# Altium integrated library Wurth_Elektronik_Electromechanic_Wire_to_Board_Connectors_rev16a.IntLib: 662 symbols (part 1 of 10)
Pins are listed as number, name and electrical type; pins without a type are passive.

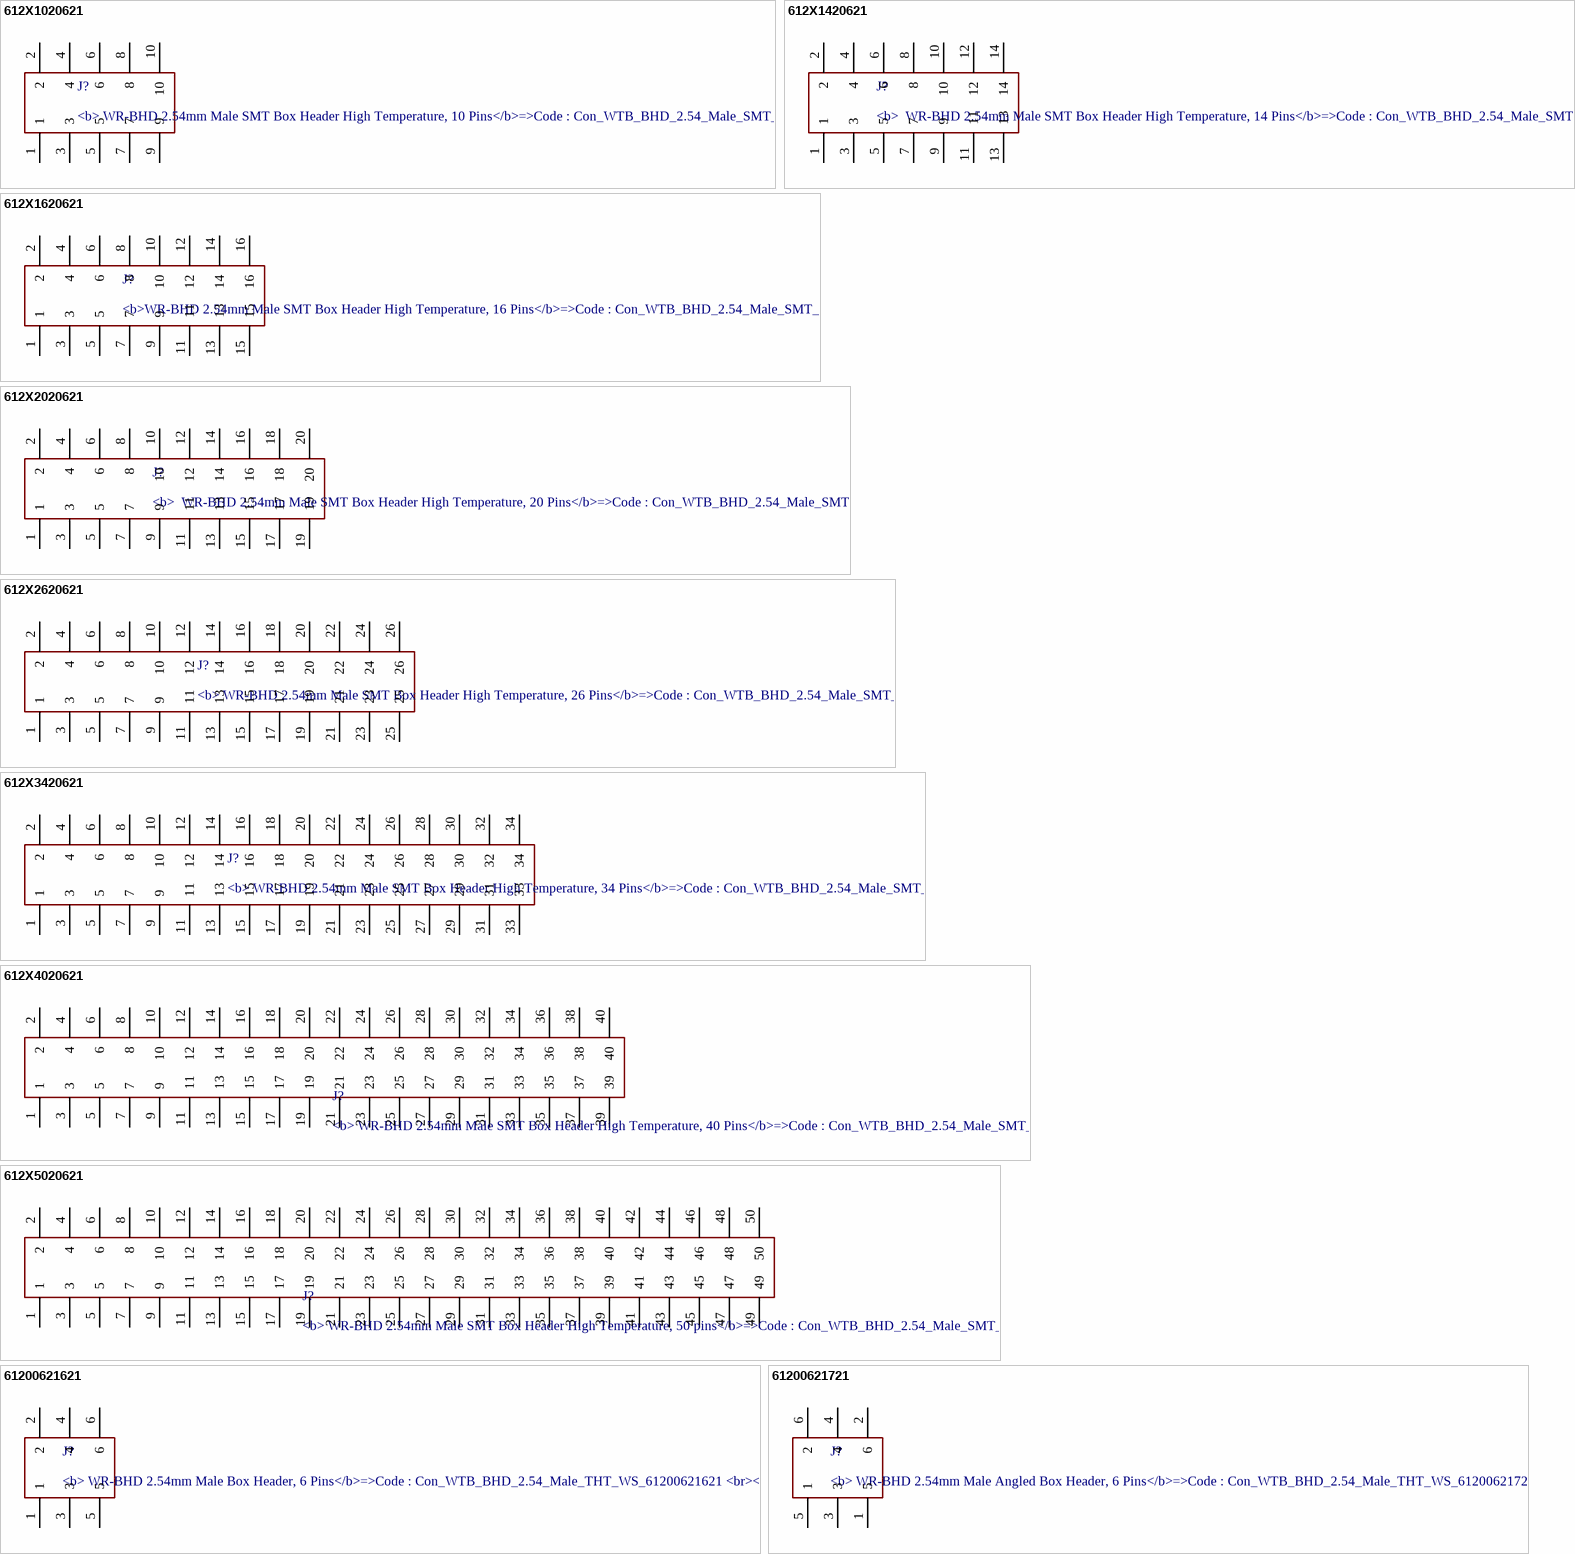
[diagram p0: symbols 612X1020621 to 61200621721]

## 612X1020621
designator J?, comment <b> WR-BHD 2.54mm Male SMT Box Header High Temperature, 10 Pins</b>=>Code : Con_WTB_BHD_2.54_Male_SMT_612X1020621 / <br><a href="http://katalog.we-online.de/media/thumbs2/eican/thb_Con_WTB_BHD_2.54_Male_SMT_6120xx20621_pf2.jpg" title="Enlarge picture"> / <img src="http://katalog.we-online.de/media/thumbs2/eican/thb_Con_WTB_BHD_2.54_Male_SMT_6120xx20621_pf2.jpg"  width="320"></a><p> / Details see: <a href="http://katalog.we-online.de/en/em/612_0xx_206_21">http://katalog.we-online.de/en/em/612_0xx_206_21</a><p> / Created 2014-06-05, Karrer Zheng<br> / 2014 (C) Würth Elektronik
footprint 612X1020621
pins: 1, 2, 3, 4, 5, 6, 7, 8, 9, 10

## 612X1420621
designator J?, comment <b>  WR-BHD 2.54mm Male SMT Box Header High Temperature, 14 Pins</b>=>Code : Con_WTB_BHD_2.54_Male_SMT_612X1420621 / <br><a href="http://katalog.we-online.de/media/thumbs2/eican/thb_Con_WTB_BHD_2.54_Male_SMT_6120xx20621_pf2.jpg" title="Enlarge picture"> / <img src="http://katalog.we-online.de/media/thumbs2/eican/thb_Con_WTB_BHD_2.54_Male_SMT_6120xx20621_pf2.jpg"  width="320"></a><p> / Details see: <a href="http://katalog.we-online.de/en/em/612_0xx_206_21">http://katalog.we-online.de/en/em/612_0xx_206_21</a><p> / Created 2014-06-05, Karrer Zheng<br> / 2014 (C) Würth Elektronik
footprint 612X1420621
pins: 1, 2, 3, 4, 5, 6, 7, 8, 9, 10, 11, 12, 13, 14

## 612X1620621
designator J?, comment <b>WR-BHD 2.54mm Male SMT Box Header High Temperature, 16 Pins</b>=>Code : Con_WTB_BHD_2.54_Male_SMT_612X1620621 / <br><a href="http://katalog.we-online.de/media/thumbs2/eican/thb_Con_WTB_BHD_2.54_Male_SMT_6120xx20621_pf2.jpg" title="Enlarge picture"> / <img src="http://katalog.we-online.de/media/thumbs2/eican/thb_Con_WTB_BHD_2.54_Male_SMT_6120xx20621_pf2.jpg"  width="320"></a><p> / Details see: <a href="http://katalog.we-online.de/en/em/612_0xx_206_21">http://katalog.we-online.de/en/em/612_0xx_206_21</a><p> / Created 2014-06-05, Karrer Zheng<br> / 2014 (C) Würth Elektronik
footprint 612X1620621
pins: 1, 2, 3, 4, 5, 6, 7, 8, 9, 10, 11, 12, 13, 14, 15, 16

## 612X2020621
designator J?, comment <b>  WR-BHD 2.54mm Male SMT Box Header High Temperature, 20 Pins</b>=>Code : Con_WTB_BHD_2.54_Male_SMT_612X2020621 / <br><a href="http://katalog.we-online.de/media/thumbs2/eican/thb_Con_WTB_BHD_2.54_Male_SMT_6120xx20621_pf2.jpg" title="Enlarge picture"> / <img src="http://katalog.we-online.de/media/thumbs2/eican/thb_Con_WTB_BHD_2.54_Male_SMT_6120xx20621_pf2.jpg"  width="320"></a><p> / Details see: <a href="http://katalog.we-online.de/en/em/612_0xx_206_21">http://katalog.we-online.de/en/em/612_0xx_206_21</a><p> / Created 2014-06-05, Karrer Zheng<br> / 2014 (C) Würth Elektronik
footprint 612X2020621
pins: 1, 2, 3, 4, 5, 6, 7, 8, 9, 10, 11, 12, 13, 14, 15, 16, 17, 18, 19, 20

## 612X2620621
designator J?, comment <b> WR-BHD 2.54mm Male SMT Box Header High Temperature, 26 Pins</b>=>Code : Con_WTB_BHD_2.54_Male_SMT_612X2620621 / <br><a href="http://katalog.we-online.de/media/thumbs2/eican/thb_Con_WTB_BHD_2.54_Male_SMT_6120xx20621_pf2.jpg" title="Enlarge picture"> / <img src="http://katalog.we-online.de/media/thumbs2/eican/thb_Con_WTB_BHD_2.54_Male_SMT_6120xx20621_pf2.jpg"  width="320"></a><p> / Details see: <a href="http://katalog.we-online.de/en/em/612_0xx_206_21">http://katalog.we-online.de/en/em/612_0xx_206_21</a><p> / Created 2014-06-05, Karrer Zheng<br> / 2014 (C) Würth Elektronik
footprint 612X2620621
pins: 1, 2, 3, 4, 5, 6, 7, 8, 9, 10, 11, 12, 13, 14, 15, 16, 17, 18, 19, 20, 21, 22, 23, 24, 25, 26

## 612X3420621
designator J?, comment <b> WR-BHD 2.54mm Male SMT Box Header High Temperature, 34 Pins</b>=>Code : Con_WTB_BHD_2.54_Male_SMT_612X3420621 / <br><a href="http://katalog.we-online.de/media/thumbs2/eican/thb_Con_WTB_BHD_2.54_Male_SMT_6120xx20621_pf2.jpg" title="Enlarge picture"> / <img src="http://katalog.we-online.de/media/thumbs2/eican/thb_Con_WTB_BHD_2.54_Male_SMT_6120xx20621_pf2.jpg"  width="320"></a><p> / Details see: <a href="http://katalog.we-online.de/en/em/612_0xx_206_21">http://katalog.we-online.de/en/em/612_0xx_206_21</a><p> / Created 2014-06-05, Karrer Zheng<br> / 2014 (C) Würth Elektronik
footprint 612X3420621
pins: 1, 2, 3, 4, 5, 6, 7, 8, 9, 10, 11, 12, 13, 14, 15, 16, 17, 18, 19, 20, 21, 22, 23, 24, 25, 26, 27, 28, 29, 30, 31, 32, 33, 34

## 612X4020621
designator J?, comment <b> WR-BHD 2.54mm Male SMT Box Header High Temperature, 40 Pins</b>=>Code : Con_WTB_BHD_2.54_Male_SMT_612X4020621 / <br><a href="http://katalog.we-online.de/media/thumbs2/eican/thb_Con_WTB_BHD_2.54_Male_SMT_6120xx20621_pf2.jpg" title="Enlarge picture"> / <img src="http://katalog.we-online.de/media/thumbs2/eican/thb_Con_WTB_BHD_2.54_Male_SMT_6120xx20621_pf2.jpg"  width="320"></a><p> / Details see: <a href="http://katalog.we-online.de/en/em/612_0xx_206_21">http://katalog.we-online.de/en/em/612_0xx_206_21</a><p> / Created 2014-06-05, Karrer Zheng<br> / 2014 (C) Würth Elektronik
footprint 612X4020621
pins: 1, 2, 3, 4, 5, 6, 7, 8, 9, 10, 11, 12, 13, 14, 15, 16, 17, 18, 19, 20, 21, 22, 23, 24, 25, 26, 27, 28, 29, 30, 31, 32, 33, 34, 35, 36, 37, 38, 39, 40

## 612X5020621
designator J?, comment <b> WR-BHD 2.54mm Male SMT Box Header High Temperature, 50 pins</b>=>Code : Con_WTB_BHD_2.54_Male_SMT_612X5020621 / <br><a href="http://katalog.we-online.de/media/thumbs2/eican/thb_Con_WTB_BHD_2.54_Male_SMT_6120xx20621_pf2.jpg" title="Enlarge picture"> / <img src="http://katalog.we-online.de/media/thumbs2/eican/thb_Con_WTB_BHD_2.54_Male_SMT_6120xx20621_pf2.jpg"  width="320"></a><p> / Details see: <a href="http://katalog.we-online.de/en/em/612_0xx_206_21">http://katalog.we-online.de/en/em/612_0xx_206_21</a><p> / Created 2014-06-05, Karrer Zheng<br> / 2014 (C) Würth Elektronik
footprint 612X5020621
pins: 1, 2, 3, 4, 5, 6, 7, 8, 9, 10, 11, 12, 13, 14, 15, 16, 17, 18, 19, 20, 21, 22, 23, 24, 25, 26, 27, 28, 29, 30, 31, 32, 33, 34, 35, 36, 37, 38, 39, 40, 41, 42, 43, 44, 45, 46, 47, 48, 49, 50

## 61200621621
designator J?, comment <b> WR-BHD 2.54mm Male Box Header, 6 Pins</b>=>Code : Con_WTB_BHD_2.54_Male_THT_WS_61200621621 / <br><a href="http://katalog.we-online.de/media/thumbs2/eican/thb_Con_WTB_BHD_2.54_Male_THT_WS_6120xx21621_pf2.jpg" title="Enlarge picture"> / <img src="http://katalog.we-online.de/media/thumbs2/eican/thb_Con_WTB_BHD_2.54_Male_THT_WS_6120xx21621_pf2.jpg"  width="320"></a><p> / Details see: <a href="http://katalog.we-online.de/en/em/612_0xx_216_21">http://katalog.we-online.de/en/em/612_0xx_216_21</a><p> / Created 2014-06-04, Karrer Zheng<br> / 2014 (C) Würth Elektronik
footprint 61200621621
pins: 1, 2, 3, 4, 5, 6

## 61200621721
designator J?, comment <b> WR-BHD 2.54mm Male Angled Box Header, 6 Pins</b>=>Code : Con_WTB_BHD_2.54_Male_THT_WS_61200621721 / <br><a href="http://katalog.we-online.de/media/thumbs2/eican/thb_Con_WTB_BHD_2.54_Male_THT_WS_6120xx21721_pf2.jpg" title="Enlarge picture"> / <img src="http://katalog.we-online.de/media/thumbs2/eican/thb_Con_WTB_BHD_2.54_Male_THT_WS_6120xx21721_pf2.jpg"  width="320"></a><p> / Details see: <a href="http://katalog.we-online.de/en/em/612_0xx_217_21">http://katalog.we-online.de/en/em/612_0xx_217_21</a><p> / Created 2014-06-05, Karrer Zheng<br> / 2014 (C) Würth Elektronik
footprint 61200621721
pins: 1 5, 2 6, 3, 4, 5 1, 6 2

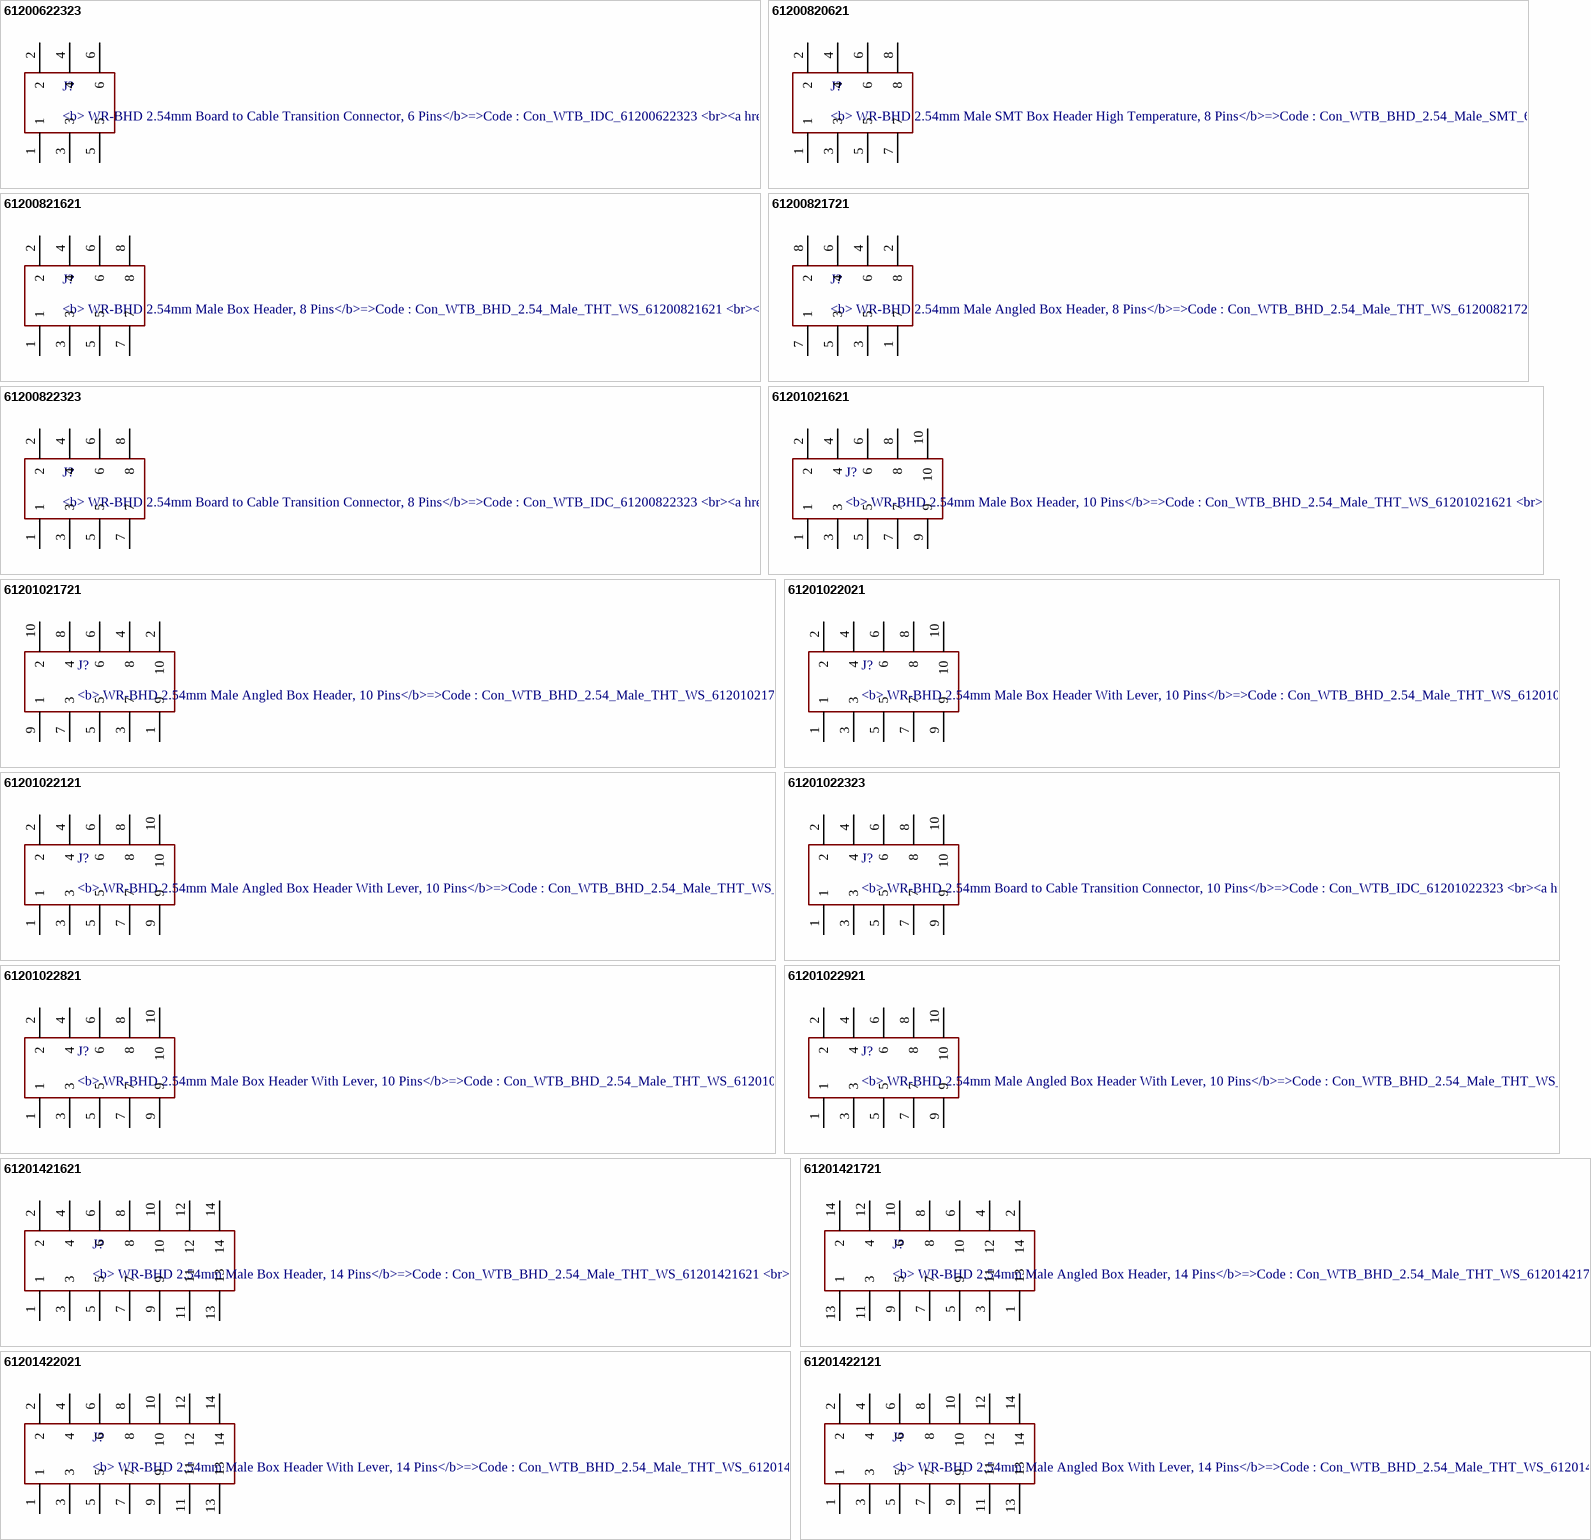
[diagram p1: symbols 61200622323 to 61201422121]

## 61200622323
designator J?, comment <b> WR-BHD 2.54mm Board to Cable Transition Connector, 6 Pins</b>=>Code : Con_WTB_IDC_61200622323 / <br><a href="http://katalog.we-online.de/media/thumbs2/eican/thb_Con_WTB_IDC_6120xx22323_pf2.jpg" title="Enlarge picture"> / <img src="http://katalog.we-online.de/media/thumbs2/eican/thb_Con_WTB_IDC_6120xx22323_pf2.jpg"  width="320"></a><p> / Details see: <a href="http://katalog.we-online.de/en/em/612_0xx_223_23">http://katalog.we-online.de/en/em/612_0xx_223_23</a><p> / Created 2014-06-05, Karrer Zheng<br> / 2014 (C) Würth Elektronik
footprint 61200622323
pins: 1, 2, 3, 4, 5, 6

## 61200820621
designator J?, comment <b> WR-BHD 2.54mm Male SMT Box Header High Temperature, 8 Pins</b>=>Code : Con_WTB_BHD_2.54_Male_SMT_61200820621 / <br><a href="http://katalog.we-online.de/media/thumbs2/eican/thb_Con_WTB_BHD_2.54_Male_SMT_6120xx20621_pf2.jpg" title="Enlarge picture"> / <img src="http://katalog.we-online.de/media/thumbs2/eican/thb_Con_WTB_BHD_2.54_Male_SMT_6120xx20621_pf2.jpg"  width="320"></a><p> / Details see: <a href="http://katalog.we-online.de/en/em/612_0xx_206_21">http://katalog.we-online.de/en/em/612_0xx_206_21</a><p> / Created 2014-06-05, Karrer Zheng<br> / 2014 (C) Würth Elektronik
footprint 61200820621
pins: 1, 2, 3, 4, 5, 6, 7, 8

## 61200821621
designator J?, comment <b> WR-BHD 2.54mm Male Box Header, 8 Pins</b>=>Code : Con_WTB_BHD_2.54_Male_THT_WS_61200821621 / <br><a href="http://katalog.we-online.de/media/thumbs2/eican/thb_Con_WTB_BHD_2.54_Male_THT_WS_6120xx21621_pf2.jpg" title="Enlarge picture"> / <img src="http://katalog.we-online.de/media/thumbs2/eican/thb_Con_WTB_BHD_2.54_Male_THT_WS_6120xx21621_pf2.jpg"  width="320"></a><p> / Details see: <a href="http://katalog.we-online.de/en/em/612_0xx_216_21">http://katalog.we-online.de/en/em/612_0xx_216_21</a><p> / Created 2014-06-04, Karrer Zheng<br> / 2014 (C) Würth Elektronik
footprint 61200821621
pins: 1, 2, 3, 4, 5, 6, 7, 8

## 61200821721
designator J?, comment <b> WR-BHD 2.54mm Male Angled Box Header, 8 Pins</b>=>Code : Con_WTB_BHD_2.54_Male_THT_WS_61200821721 / <br><a href="http://katalog.we-online.de/media/thumbs2/eican/thb_Con_WTB_BHD_2.54_Male_THT_WS_6120xx21721_pf2.jpg" title="Enlarge picture"> / <img src="http://katalog.we-online.de/media/thumbs2/eican/thb_Con_WTB_BHD_2.54_Male_THT_WS_6120xx21721_pf2.jpg"  width="320"></a><p> / Details see: <a href="http://katalog.we-online.de/en/em/612_0xx_217_21">http://katalog.we-online.de/en/em/612_0xx_217_21</a><p> / Created 2014-06-05, Karrer Zheng<br> / 2014 (C) Würth Elektronik
footprint 61200821721
pins: 1 7, 2 8, 3 5, 4 6, 5 3, 6 4, 7 1, 8 2

## 61200822323
designator J?, comment <b> WR-BHD 2.54mm Board to Cable Transition Connector, 8 Pins</b>=>Code : Con_WTB_IDC_61200822323 / <br><a href="http://katalog.we-online.de/media/thumbs2/eican/thb_Con_WTB_IDC_6120xx22323_pf2.jpg" title="Enlarge picture"> / <img src="http://katalog.we-online.de/media/thumbs2/eican/thb_Con_WTB_IDC_6120xx22323_pf2.jpg"  width="320"></a><p> / Details see: <a href="http://katalog.we-online.de/en/em/612_0xx_223_23">http://katalog.we-online.de/en/em/612_0xx_223_23</a><p> / Created 2014-06-05, Karrer Zheng<br> / 2014 (C) Würth Elektronik
footprint 61200822323
pins: 1, 2, 3, 4, 5, 6, 7, 8

## 61201021621
designator J?, comment <b> WR-BHD 2.54mm Male Box Header, 10 Pins</b>=>Code : Con_WTB_BHD_2.54_Male_THT_WS_61201021621 / <br><a href="http://katalog.we-online.de/media/thumbs2/eican/thb_Con_WTB_BHD_2.54_Male_THT_WS_6120xx21621_pf2.jpg" title="Enlarge picture"> / <img src="http://katalog.we-online.de/media/thumbs2/eican/thb_Con_WTB_BHD_2.54_Male_THT_WS_6120xx21621_pf2.jpg"  width="320"></a><p> / Details see: <a href="http://katalog.we-online.de/en/em/612_0xx_216_21">http://katalog.we-online.de/en/em/612_0xx_216_21</a><p> / Created 2014-06-04, Karrer Zheng<br> / 2014 (C) Würth Elektronik
footprint 61201021621
pins: 1, 2, 3, 4, 5, 6, 7, 8, 9, 10

## 61201021721
designator J?, comment <b> WR-BHD 2.54mm Male Angled Box Header, 10 Pins</b>=>Code : Con_WTB_BHD_2.54_Male_THT_WS_61201021721 / <br><a href="http://katalog.we-online.de/media/thumbs2/eican/thb_Con_WTB_BHD_2.54_Male_THT_WS_6120xx21721_pf2.jpg" title="Enlarge picture"> / <img src="http://katalog.we-online.de/media/thumbs2/eican/thb_Con_WTB_BHD_2.54_Male_THT_WS_6120xx21721_pf2.jpg"  width="320"></a><p> / Details see: <a href="http://katalog.we-online.de/en/em/612_0xx_217_21">http://katalog.we-online.de/en/em/612_0xx_217_21</a><p> / Created 2014-06-05, Karrer Zheng<br> / 2014 (C) Würth Elektronik
footprint 61201021721
pins: 1 9, 2 10, 3 7, 4 8, 5, 6, 7 3, 8 4, 9 1, 10 2

## 61201022021
designator J?, comment <b> WR-BHD 2.54mm Male Box Header With Lever, 10 Pins</b>=>Code : Con_WTB_BHD_2.54_Male_THT_WS_61201022021 / <br><a href="http://katalog.we-online.de/media/thumbs2/eican/thb_Con_WTB_BHD_2.54_Male_THT_WS_6120xx22021_pf2.jpg" title="Enlarge picture"> / <img src="http://katalog.we-online.de/media/thumbs2/eican/thb_Con_WTB_BHD_2.54_Male_THT_WS_6120xx22021_pf2.jpg"  width="320"></a><p> / Details see: <a href="http://katalog.we-online.de/en/em/612_0xx_220_21">http://katalog.we-online.de/en/em/612_0xx_220_21</a><p> / Created 2014-06-05, Karrer Zheng<br> / 2014 (C) Würth Elektronik
footprint 61201022021
pins: 1, 2, 3, 4, 5, 6, 7, 8, 9, 10

## 61201022121
designator J?, comment <b> WR-BHD 2.54mm Male Angled Box Header With Lever, 10 Pins</b>=>Code : Con_WTB_BHD_2.54_Male_THT_WS_61201022121 / <br><a href="http://katalog.we-online.de/media/thumbs2/eican/thb_Con_WTB_BHD_2.54_Male_THT_WS_6120xx22121_pf2.jpg" title="Enlarge picture"> / <img src="http://katalog.we-online.de/media/thumbs2/eican/thb_Con_WTB_BHD_2.54_Male_THT_WS_6120xx22121_pf2.jpg"  width="320"></a><p> / Details see: <a href="http://katalog.we-online.de/en/em/612_0xx_221_21">http://katalog.we-online.de/en/em/612_0xx_221_21</a><p> / Created 2014-06-05, Karrer Zheng<br> / 2014 (C) Würth Elektronik
footprint 61201022121
pins: 1, 2, 3, 4, 5, 6, 7, 8, 9, 10

## 61201022323
designator J?, comment <b> WR-BHD 2.54mm Board to Cable Transition Connector, 10 Pins</b>=>Code : Con_WTB_IDC_61201022323 / <br><a href="http://katalog.we-online.de/media/thumbs2/eican/thb_Con_WTB_IDC_6120xx22323_pf2.jpg" title="Enlarge picture"> / <img src="http://katalog.we-online.de/media/thumbs2/eican/thb_Con_WTB_IDC_6120xx22323_pf2.jpg"  width="320"></a><p> / Details see: <a href="http://katalog.we-online.de/en/em/612_0xx_223_23">http://katalog.we-online.de/en/em/612_0xx_223_23</a><p> / Created 2014-06-05, Karrer Zheng<br> / 2014 (C) Würth Elektronik
footprint 61201022323
pins: 1, 2, 3, 4, 5, 6, 7, 8, 9, 10

## 61201022821
designator J?, comment <b> WR-BHD 2.54mm Male Box Header With Lever, 10 Pins</b>=>Code : Con_WTB_BHD_2.54_Male_THT_WS_61201022821 / <br><a href="http://katalog.we-online.de/media/thumbs2/eican/thb_Con_WTB_BHD_2.54_Male_THT_WS_6120xx22821_pf2.jpg" title="Enlarge picture"> / <img src="http://katalog.we-online.de/media/thumbs2/eican/thb_Con_WTB_BHD_2.54_Male_THT_WS_6120xx22821_pf2.jpg"  width="320"></a><p> / Details see: <a href="http://katalog.we-online.de/en/em/612_0xx_228_21">http://katalog.we-online.de/en/em/612_0xx_228_21</a><p> / Created 2014-06-05, Karrer Zheng<br> / 2014 (C) Würth Elektronik
footprint 61201022821
pins: 1, 2, 3, 4, 5, 6, 7, 8, 9, 10

## 61201022921
designator J?, comment <b> WR-BHD 2.54mm Male Angled Box Header With Lever, 10 Pins</b>=>Code : Con_WTB_BHD_2.54_Male_THT_WS_61201022921 / <br><a href="http://katalog.we-online.de/media/thumbs2/eican/thb_Con_WTB_BHD_2.54_Male_THT_WS_6120xx22921_pf2.jpg" title="Enlarge picture"> / <img src="http://katalog.we-online.de/media/thumbs2/eican/thb_Con_WTB_BHD_2.54_Male_THT_WS_6120xx22921_pf2.jpg"  width="320"></a><p> / Details see: <a href="http://katalog.we-online.de/en/em/612_0xx_229_21">http://katalog.we-online.de/en/em/612_0xx_229_21</a><p> / Created 2014-06-05, Karrer Zheng<br> / 2014 (C) Würth Elektronik
footprint 61201022921
pins: 1, 2, 3, 4, 5, 6, 7, 8, 9, 10

## 61201421621
designator J?, comment <b> WR-BHD 2.54mm Male Box Header, 14 Pins</b>=>Code : Con_WTB_BHD_2.54_Male_THT_WS_61201421621 / <br><a href="http://katalog.we-online.de/media/thumbs2/eican/thb_Con_WTB_BHD_2.54_Male_THT_WS_6120xx21621_pf2.jpg" title="Enlarge picture"> / <img src="http://katalog.we-online.de/media/thumbs2/eican/thb_Con_WTB_BHD_2.54_Male_THT_WS_6120xx21621_pf2.jpg"  width="320"></a><p> / Details see: <a href="http://katalog.we-online.de/en/em/612_0xx_216_21">http://katalog.we-online.de/en/em/612_0xx_216_21</a><p> / Created 2014-06-04, Karrer Zheng<br> / 2014 (C) Würth Elektronik
footprint 61201421621
pins: 1, 2, 3, 4, 5, 6, 7, 8, 9, 10, 11, 12, 13, 14

## 61201421721
designator J?, comment <b> WR-BHD 2.54mm Male Angled Box Header, 14 Pins</b>=>Code : Con_WTB_BHD_2.54_Male_THT_WS_61201421721 / <br><a href="http://katalog.we-online.de/media/thumbs2/eican/thb_Con_WTB_BHD_2.54_Male_THT_WS_6120xx21721_pf2.jpg" title="Enlarge picture"> / <img src="http://katalog.we-online.de/media/thumbs2/eican/thb_Con_WTB_BHD_2.54_Male_THT_WS_6120xx21721_pf2.jpg"  width="320"></a><p> / Details see: <a href="http://katalog.we-online.de/en/em/612_0xx_217_21">http://katalog.we-online.de/en/em/612_0xx_217_21</a><p> / Created 2014-06-05, Karrer Zheng<br> / 2014 (C) Würth Elektronik
footprint 61201421721
pins: 1 13, 2 14, 3 11, 4 12, 5 9, 6 10, 7, 8, 9 5, 10 6, 11 3, 12 4, 13 1, 14 2

## 61201422021
designator J?, comment <b> WR-BHD 2.54mm Male Box Header With Lever, 14 Pins</b>=>Code : Con_WTB_BHD_2.54_Male_THT_WS_61201422021 / <br><a href="http://katalog.we-online.de/media/thumbs2/eican/thb_Con_WTB_BHD_2.54_Male_THT_WS_6120xx22021_pf2.jpg" title="Enlarge picture"> / <img src="http://katalog.we-online.de/media/thumbs2/eican/thb_Con_WTB_BHD_2.54_Male_THT_WS_6120xx22021_pf2.jpg"  width="320"></a><p> / Details see: <a href="http://katalog.we-online.de/en/em/612_0xx_220_21">http://katalog.we-online.de/en/em/612_0xx_220_21</a><p> / Created 2014-06-05, Karrer Zheng<br> / 2014 (C) Würth Elektronik
footprint 61201422021
pins: 1, 2, 3, 4, 5, 6, 7, 8, 9, 10, 11, 12, 13, 14

## 61201422121
designator J?, comment <b> WR-BHD 2.54mm Male Angled Box With Lever, 14 Pins</b>=>Code : Con_WTB_BHD_2.54_Male_THT_WS_61201422121 / <br><a href="http://katalog.we-online.de/media/thumbs2/eican/thb_Con_WTB_BHD_2.54_Male_THT_WS_6120xx22121_pf2.jpg" title="Enlarge picture"> / <img src="http://katalog.we-online.de/media/thumbs2/eican/thb_Con_WTB_BHD_2.54_Male_THT_WS_6120xx22121_pf2.jpg"  width="320"></a><p> / Details see: <a href="http://katalog.we-online.de/en/em/612_0xx_221_21">http://katalog.we-online.de/en/em/612_0xx_221_21</a><p> / Created 2014-06-05, Karrer Zheng<br> / 2014 (C) Würth Elektronik
footprint 61201422121
pins: 1, 2, 3, 4, 5, 6, 7, 8, 9, 10, 11, 12, 13, 14

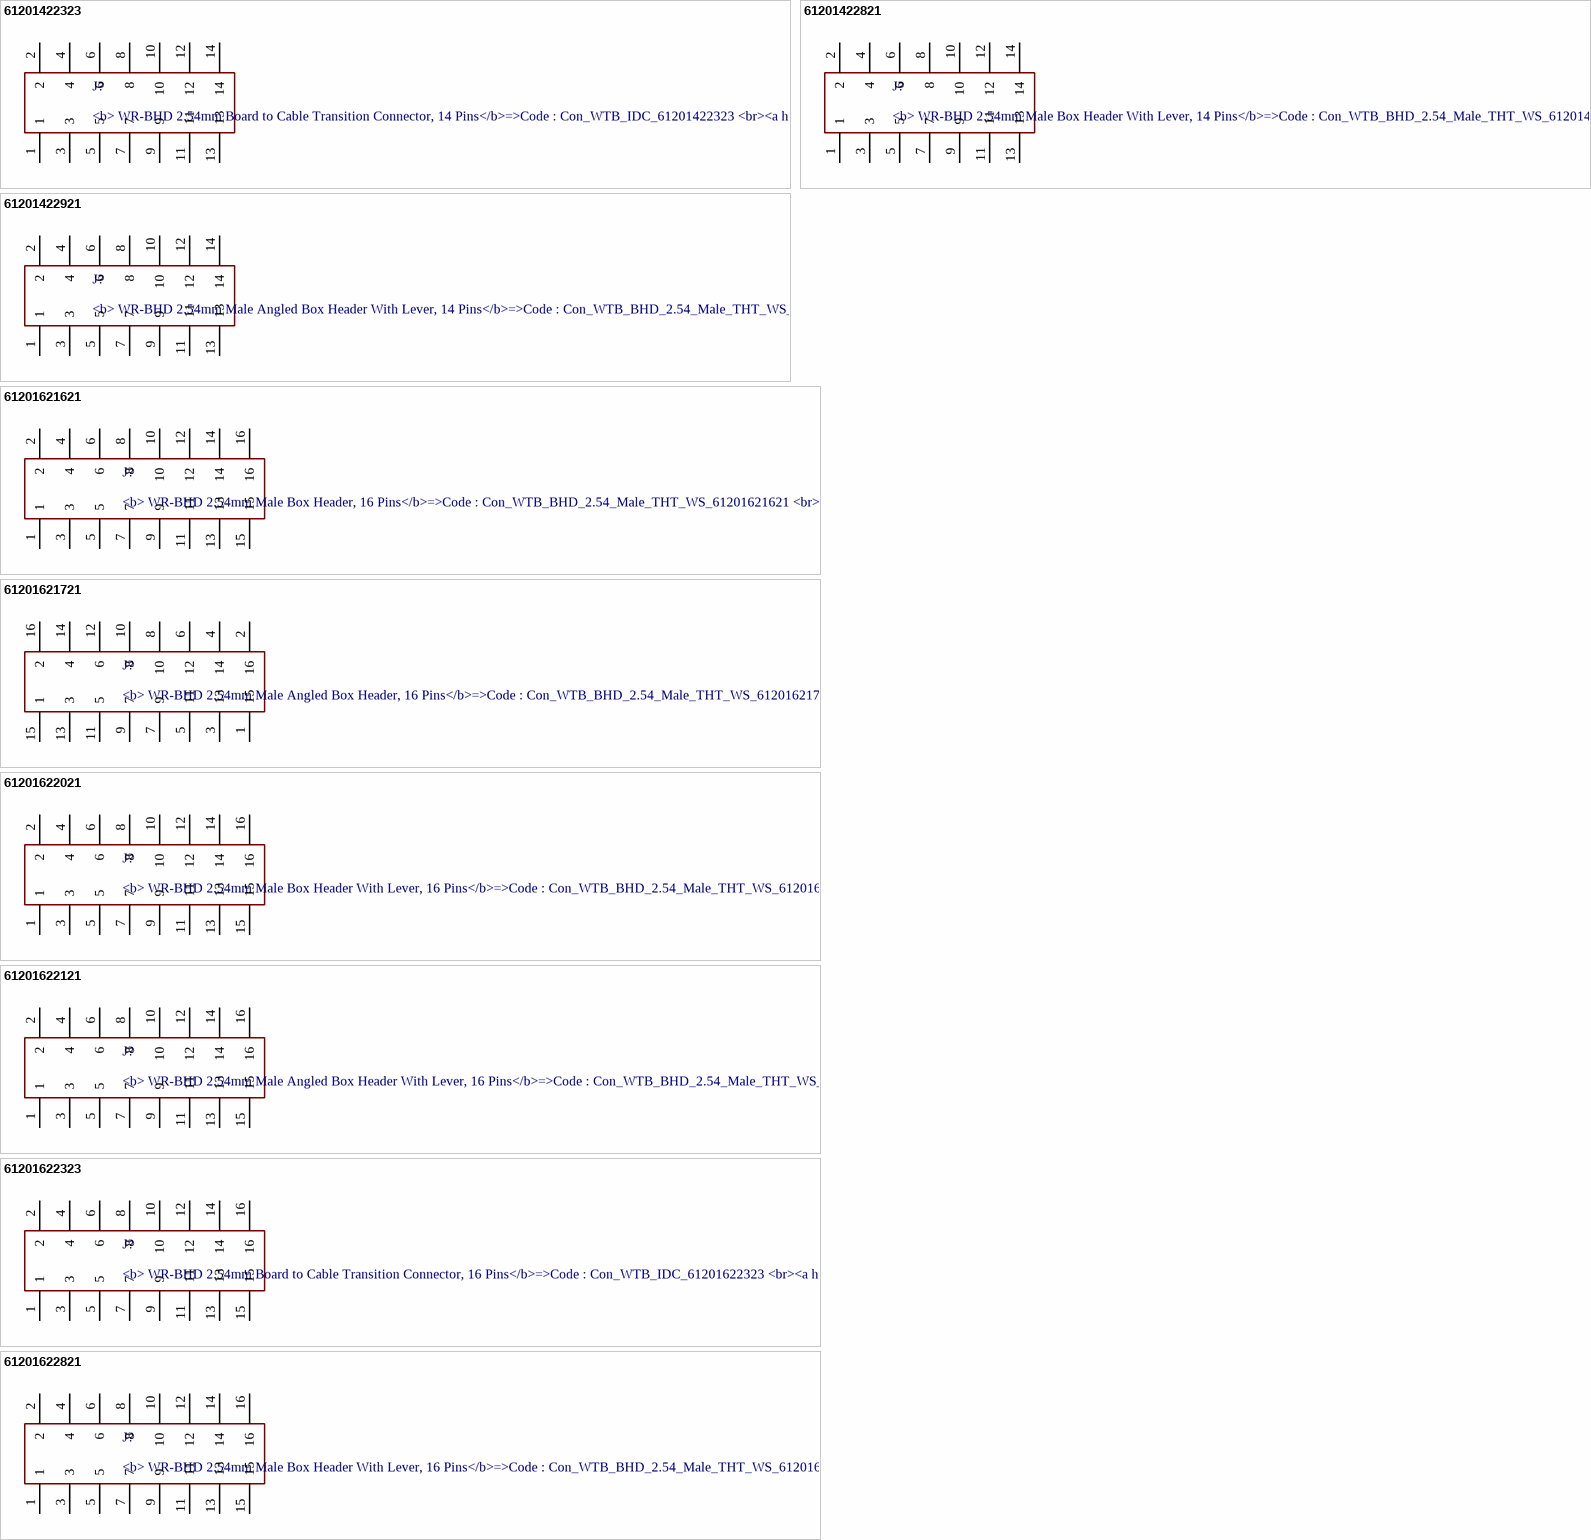
[diagram p2: symbols 61201422323 to 61201622821]

## 61201422323
designator J?, comment <b> WR-BHD 2.54mm Board to Cable Transition Connector, 14 Pins</b>=>Code : Con_WTB_IDC_61201422323 / <br><a href="http://katalog.we-online.de/media/thumbs2/eican/thb_Con_WTB_IDC_6120xx22323_pf2.jpg" title="Enlarge picture"> / <img src="http://katalog.we-online.de/media/thumbs2/eican/thb_Con_WTB_IDC_6120xx22323_pf2.jpg"  width="320"></a><p> / Details see: <a href="http://katalog.we-online.de/en/em/612_0xx_223_23">http://katalog.we-online.de/en/em/612_0xx_223_23</a><p> / Created 2014-06-05, Karrer Zheng<br> / 2014 (C) Würth Elektronik
footprint 61201422323
pins: 1, 2, 3, 4, 5, 6, 7, 8, 9, 10, 11, 12, 13, 14

## 61201422821
designator J?, comment <b> WR-BHD 2.54mm Male Box Header With Lever, 14 Pins</b>=>Code : Con_WTB_BHD_2.54_Male_THT_WS_61201422821 / <br><a href="http://katalog.we-online.de/media/thumbs2/eican/thb_Con_WTB_BHD_2.54_Male_THT_WS_6120xx22821_pf2.jpg" title="Enlarge picture"> / <img src="http://katalog.we-online.de/media/thumbs2/eican/thb_Con_WTB_BHD_2.54_Male_THT_WS_6120xx22821_pf2.jpg"  width="320"></a><p> / Details see: <a href="http://katalog.we-online.de/en/em/612_0xx_228_21">http://katalog.we-online.de/en/em/612_0xx_228_21</a><p> / Created 2014-06-05, Karrer Zheng<br> / 2014 (C) Würth Elektronik
footprint 61201422821
pins: 1, 2, 3, 4, 5, 6, 7, 8, 9, 10, 11, 12, 13, 14

## 61201422921
designator J?, comment <b> WR-BHD 2.54mm Male Angled Box Header With Lever, 14 Pins</b>=>Code : Con_WTB_BHD_2.54_Male_THT_WS_61201422921 / <br><a href="http://katalog.we-online.de/media/thumbs2/eican/thb_Con_WTB_BHD_2.54_Male_THT_WS_6120xx22921_pf2.jpg" title="Enlarge picture"> / <img src="http://katalog.we-online.de/media/thumbs2/eican/thb_Con_WTB_BHD_2.54_Male_THT_WS_6120xx22921_pf2.jpg"  width="320"></a><p> / Details see: <a href="http://katalog.we-online.de/en/em/612_0xx_229_21">http://katalog.we-online.de/en/em/612_0xx_229_21</a><p> / Created 2014-06-05, Karrer Zheng<br> / 2014 (C) Würth Elektronik
footprint 61201422921
pins: 1, 2, 3, 4, 5, 6, 7, 8, 9, 10, 11, 12, 13, 14

## 61201621621
designator J?, comment <b> WR-BHD 2.54mm Male Box Header, 16 Pins</b>=>Code : Con_WTB_BHD_2.54_Male_THT_WS_61201621621 / <br><a href="http://katalog.we-online.de/media/thumbs2/eican/thb_Con_WTB_BHD_2.54_Male_THT_WS_6120xx21621_pf2.jpg" title="Enlarge picture"> / <img src="http://katalog.we-online.de/media/thumbs2/eican/thb_Con_WTB_BHD_2.54_Male_THT_WS_6120xx21621_pf2.jpg"  width="320"></a><p> / Details see: <a href="http://katalog.we-online.de/en/em/612_0xx_216_21">http://katalog.we-online.de/en/em/612_0xx_216_21</a><p> / Created 2014-06-04, Karrer Zheng<br> / 2014 (C) Würth Elektronik
footprint 61201621621
pins: 1, 2, 3, 4, 5, 6, 7, 8, 9, 10, 11, 12, 13, 14, 15, 16

## 61201621721
designator J?, comment <b> WR-BHD 2.54mm Male Angled Box Header, 16 Pins</b>=>Code : Con_WTB_BHD_2.54_Male_THT_WS_61201621721 / <br><a href="http://katalog.we-online.de/media/thumbs2/eican/thb_Con_WTB_BHD_2.54_Male_THT_WS_6120xx21721_pf2.jpg" title="Enlarge picture"> / <img src="http://katalog.we-online.de/media/thumbs2/eican/thb_Con_WTB_BHD_2.54_Male_THT_WS_6120xx21721_pf2.jpg"  width="320"></a><p> / Details see: <a href="http://katalog.we-online.de/en/em/612_0xx_217_21">http://katalog.we-online.de/en/em/612_0xx_217_21</a><p> / Created 2014-06-05, Karrer Zheng<br> / 2014 (C) Würth Elektronik
footprint 61201621721
pins: 1 15, 2 16, 3 13, 4 14, 5 11, 6 12, 7 9, 8 10, 9 7, 10 8, 11 5, 12 6, 13 3, 14 4, 15 1, 16 2

## 61201622021
designator J?, comment <b> WR-BHD 2.54mm Male Box Header With Lever, 16 Pins</b>=>Code : Con_WTB_BHD_2.54_Male_THT_WS_61201622021 / <br><a href="http://katalog.we-online.de/media/thumbs2/eican/thb_Con_WTB_BHD_2.54_Male_THT_WS_6120xx22021_pf2.jpg" title="Enlarge picture"> / <img src="http://katalog.we-online.de/media/thumbs2/eican/thb_Con_WTB_BHD_2.54_Male_THT_WS_6120xx22021_pf2.jpg"  width="320"></a><p> / Details see: <a href="http://katalog.we-online.de/en/em/612_0xx_220_21">http://katalog.we-online.de/en/em/612_0xx_220_21</a><p> / Created 2014-06-05, Karrer Zheng<br> / 2014 (C) Würth Elektronik
footprint 61201622021
pins: 1, 2, 3, 4, 5, 6, 7, 8, 9, 10, 11, 12, 13, 14, 15, 16

## 61201622121
designator J?, comment <b> WR-BHD 2.54mm Male Angled Box Header With Lever, 16 Pins</b>=>Code : Con_WTB_BHD_2.54_Male_THT_WS_61201622121 / <br><a href="http://katalog.we-online.de/media/thumbs2/eican/thb_Con_WTB_BHD_2.54_Male_THT_WS_6120xx22121_pf2.jpg" title="Enlarge picture"> / <img src="http://katalog.we-online.de/media/thumbs2/eican/thb_Con_WTB_BHD_2.54_Male_THT_WS_6120xx22121_pf2.jpg"  width="320"></a><p> / Details see: <a href="http://katalog.we-online.de/en/em/612_0xx_221_21">http://katalog.we-online.de/en/em/612_0xx_221_21</a><p> / Created 2014-06-05, Karrer Zheng<br> / 2014 (C) Würth Elektronik
footprint 61201622121
pins: 1, 2, 3, 4, 5, 6, 7, 8, 9, 10, 11, 12, 13, 14, 15, 16

## 61201622323
designator J?, comment <b> WR-BHD 2.54mm Board to Cable Transition Connector, 16 Pins</b>=>Code : Con_WTB_IDC_61201622323 / <br><a href="http://katalog.we-online.de/media/thumbs2/eican/thb_Con_WTB_IDC_6120xx22323_pf2.jpg" title="Enlarge picture"> / <img src="http://katalog.we-online.de/media/thumbs2/eican/thb_Con_WTB_IDC_6120xx22323_pf2.jpg"  width="320"></a><p> / Details see: <a href="http://katalog.we-online.de/en/em/612_0xx_223_23">http://katalog.we-online.de/en/em/612_0xx_223_23</a><p> / Created 2014-06-05, Karrer Zheng<br> / 2014 (C) Würth Elektronik
footprint 61201622323
pins: 1, 2, 3, 4, 5, 6, 7, 8, 9, 10, 11, 12, 13, 14, 15, 16

## 61201622821
designator J?, comment <b> WR-BHD 2.54mm Male Box Header With Lever, 16 Pins</b>=>Code : Con_WTB_BHD_2.54_Male_THT_WS_61201622821 / <br><a href="http://katalog.we-online.de/media/thumbs2/eican/thb_Con_WTB_BHD_2.54_Male_THT_WS_6120xx22821_pf2.jpg" title="Enlarge picture"> / <img src="http://katalog.we-online.de/media/thumbs2/eican/thb_Con_WTB_BHD_2.54_Male_THT_WS_6120xx22821_pf2.jpg"  width="320"></a><p> / Details see: <a href="http://katalog.we-online.de/en/em/612_0xx_228_21">http://katalog.we-online.de/en/em/612_0xx_228_21</a><p> / Created 2014-06-05, Karrer Zheng<br> / 2014 (C) Würth Elektronik
footprint 61201622821
pins: 1, 2, 3, 4, 5, 6, 7, 8, 9, 10, 11, 12, 13, 14, 15, 16

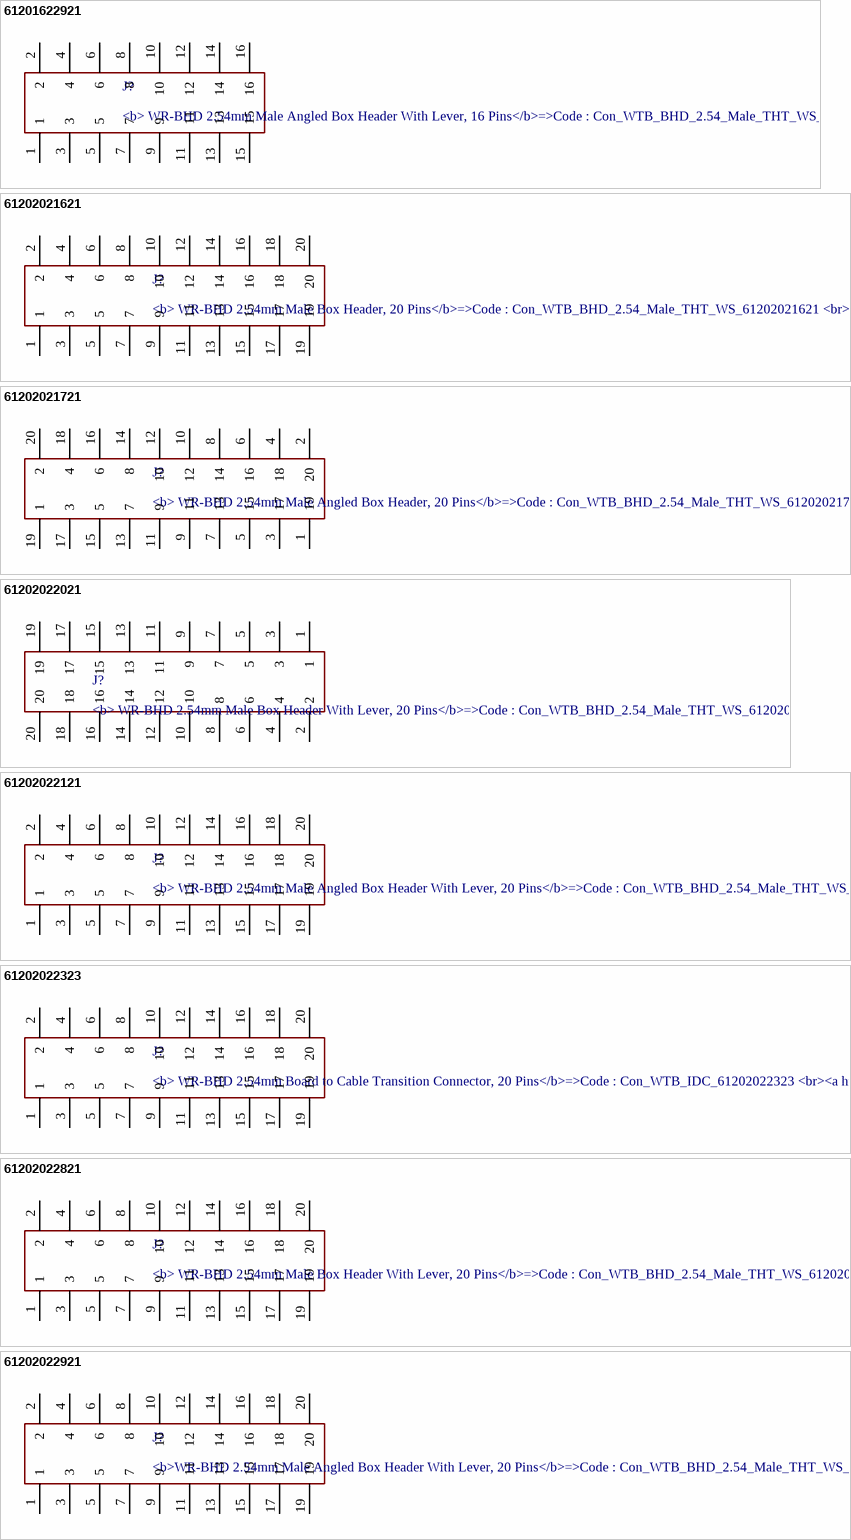
[diagram p3: symbols 61201622921 to 61202022921]

## 61201622921
designator J?, comment <b> WR-BHD 2.54mm Male Angled Box Header With Lever, 16 Pins</b>=>Code : Con_WTB_BHD_2.54_Male_THT_WS_61201622921 / <br><a href="http://katalog.we-online.de/media/thumbs2/eican/thb_Con_WTB_BHD_2.54_Male_THT_WS_6120xx22921_pf2.jpg" title="Enlarge picture"> / <img src="http://katalog.we-online.de/media/thumbs2/eican/thb_Con_WTB_BHD_2.54_Male_THT_WS_6120xx22921_pf2.jpg"  width="320"></a><p> / Details see: <a href="http://katalog.we-online.de/en/em/612_0xx_229_21">http://katalog.we-online.de/en/em/612_0xx_229_21</a><p> / Created 2014-06-05, Karrer Zheng<br> / 2014 (C) Würth Elektronik
footprint 61201622921
pins: 1, 2, 3, 4, 5, 6, 7, 8, 9, 10, 11, 12, 13, 14, 15, 16

## 61202021621
designator J?, comment <b> WR-BHD 2.54mm Male Box Header, 20 Pins</b>=>Code : Con_WTB_BHD_2.54_Male_THT_WS_61202021621 / <br><a href="http://katalog.we-online.de/media/thumbs2/eican/thb_Con_WTB_BHD_2.54_Male_THT_WS_6120xx21621_pf2.jpg" title="Enlarge picture"> / <img src="http://katalog.we-online.de/media/thumbs2/eican/thb_Con_WTB_BHD_2.54_Male_THT_WS_6120xx21621_pf2.jpg"  width="320"></a><p> / Details see: <a href="http://katalog.we-online.de/en/em/612_0xx_216_21">http://katalog.we-online.de/en/em/612_0xx_216_21</a><p> / Created 2014-06-04, Karrer Zheng<br> / 2014 (C) Würth Elektronik
footprint 61202021621
pins: 1, 2, 3, 4, 5, 6, 7, 8, 9, 10, 11, 12, 13, 14, 15, 16, 17, 18, 19, 20

## 61202021721
designator J?, comment <b> WR-BHD 2.54mm Male Angled Box Header, 20 Pins</b>=>Code : Con_WTB_BHD_2.54_Male_THT_WS_61202021721 / <br><a href="http://katalog.we-online.de/media/thumbs2/eican/thb_Con_WTB_BHD_2.54_Male_THT_WS_6120xx21721_pf2.jpg" title="Enlarge picture"> / <img src="http://katalog.we-online.de/media/thumbs2/eican/thb_Con_WTB_BHD_2.54_Male_THT_WS_6120xx21721_pf2.jpg"  width="320"></a><p> / Details see: <a href="http://katalog.we-online.de/en/em/612_0xx_217_21">http://katalog.we-online.de/en/em/612_0xx_217_21</a><p> / Created 2014-06-05, Karrer Zheng<br> / 2014 (C) Würth Elektronik
footprint 61202021721
pins: 1 19, 2 20, 3 17, 4 18, 5 15, 6 16, 7 13, 8 14, 9 11, 10 12, 11 9, 12 10, 13 7, 14 8, 15 5, 16 6, 17 3, 18 4, 19 1, 20 2

## 61202022021
designator J?, comment <b> WR-BHD 2.54mm Male Box Header With Lever, 20 Pins</b>=>Code : Con_WTB_BHD_2.54_Male_THT_WS_61202022021 / <br><a href="http://katalog.we-online.de/media/thumbs2/eican/thb_Con_WTB_BHD_2.54_Male_THT_WS_6120xx22021_pf2.jpg" title="Enlarge picture"> / <img src="http://katalog.we-online.de/media/thumbs2/eican/thb_Con_WTB_BHD_2.54_Male_THT_WS_6120xx22021_pf2.jpg"  width="320"></a><p> / Details see: <a href="http://katalog.we-online.de/en/em/612_0xx_220_21">http://katalog.we-online.de/en/em/612_0xx_220_21</a><p> / Created 2014-06-05, Karrer Zheng<br> / 2014 (C) Würth Elektronik
footprint 61202022021
pins: 1, 2, 3, 4, 5, 6, 7, 8, 9, 10, 11, 12, 13, 14, 15, 16, 17, 18, 19, 20

## 61202022121
designator J?, comment <b> WR-BHD 2.54mm Male Angled Box Header With Lever, 20 Pins</b>=>Code : Con_WTB_BHD_2.54_Male_THT_WS_61202022121 / <br><a href="http://katalog.we-online.de/media/thumbs2/eican/thb_Con_WTB_BHD_2.54_Male_THT_WS_6120xx22121_pf2.jpg" title="Enlarge picture"> / <img src="http://katalog.we-online.de/media/thumbs2/eican/thb_Con_WTB_BHD_2.54_Male_THT_WS_6120xx22121_pf2.jpg"  width="320"></a><p> / Details see: <a href="http://katalog.we-online.de/en/em/612_0xx_221_21">http://katalog.we-online.de/en/em/612_0xx_221_21</a><p> / Created 2014-06-05, Karrer Zheng<br> / 2014 (C) Würth Elektronik
footprint 61202022121
pins: 1, 2, 3, 4, 5, 6, 7, 8, 9, 10, 11, 12, 13, 14, 15, 16, 17, 18, 19, 20

## 61202022323
designator J?, comment <b> WR-BHD 2.54mm Board to Cable Transition Connector, 20 Pins</b>=>Code : Con_WTB_IDC_61202022323 / <br><a href="http://katalog.we-online.de/media/thumbs2/eican/thb_Con_WTB_IDC_6120xx22323_pf2.jpg" title="Enlarge picture"> / <img src="http://katalog.we-online.de/media/thumbs2/eican/thb_Con_WTB_IDC_6120xx22323_pf2.jpg"  width="320"></a><p> / Details see: <a href="http://katalog.we-online.de/en/em/612_0xx_223_23">http://katalog.we-online.de/en/em/612_0xx_223_23</a><p> / Created 2014-06-05, Karrer Zheng<br> / 2014 (C) Würth Elektronik
footprint 61202022323
pins: 1, 2, 3, 4, 5, 6, 7, 8, 9, 10, 11, 12, 13, 14, 15, 16, 17, 18, 19, 20

## 61202022821
designator J?, comment <b> WR-BHD 2.54mm Male Box Header With Lever, 20 Pins</b>=>Code : Con_WTB_BHD_2.54_Male_THT_WS_61202022821 / <br><a href="http://katalog.we-online.de/media/thumbs2/eican/thb_Con_WTB_BHD_2.54_Male_THT_WS_6120xx22821_pf2.jpg" title="Enlarge picture"> / <img src="http://katalog.we-online.de/media/thumbs2/eican/thb_Con_WTB_BHD_2.54_Male_THT_WS_6120xx22821_pf2.jpg"  width="320"></a><p> / Details see: <a href="http://katalog.we-online.de/en/em/612_0xx_228_21">http://katalog.we-online.de/en/em/612_0xx_228_21</a><p> / Created 2014-06-05, Karrer Zheng<br> / 2014 (C) Würth Elektronik
footprint 61202022821
pins: 1, 2, 3, 4, 5, 6, 7, 8, 9, 10, 11, 12, 13, 14, 15, 16, 17, 18, 19, 20

## 61202022921
designator J?, comment <b>WR-BHD 2.54mm Male Angled Box Header With Lever, 20 Pins</b>=>Code : Con_WTB_BHD_2.54_Male_THT_WS_61202022921 / <br><a href="http://katalog.we-online.de/media/thumbs2/eican/thb_Con_WTB_BHD_2.54_Male_THT_WS_6120xx22921_pf2.jpg" title="Enlarge picture"> / <img src="http://katalog.we-online.de/media/thumbs2/eican/thb_Con_WTB_BHD_2.54_Male_THT_WS_6120xx22921_pf2.jpg"  width="320"></a><p> / Details see: <a href="http://katalog.we-online.de/en/em/612_0xx_229_21">http://katalog.we-online.de/en/em/612_0xx_229_21</a><p> / Created 2014-06-05, Karrer Zheng<br> / 2014 (C) Würth Elektronik
footprint 61202022921
pins: 1, 2, 3, 4, 5, 6, 7, 8, 9, 10, 11, 12, 13, 14, 15, 16, 17, 18, 19, 20

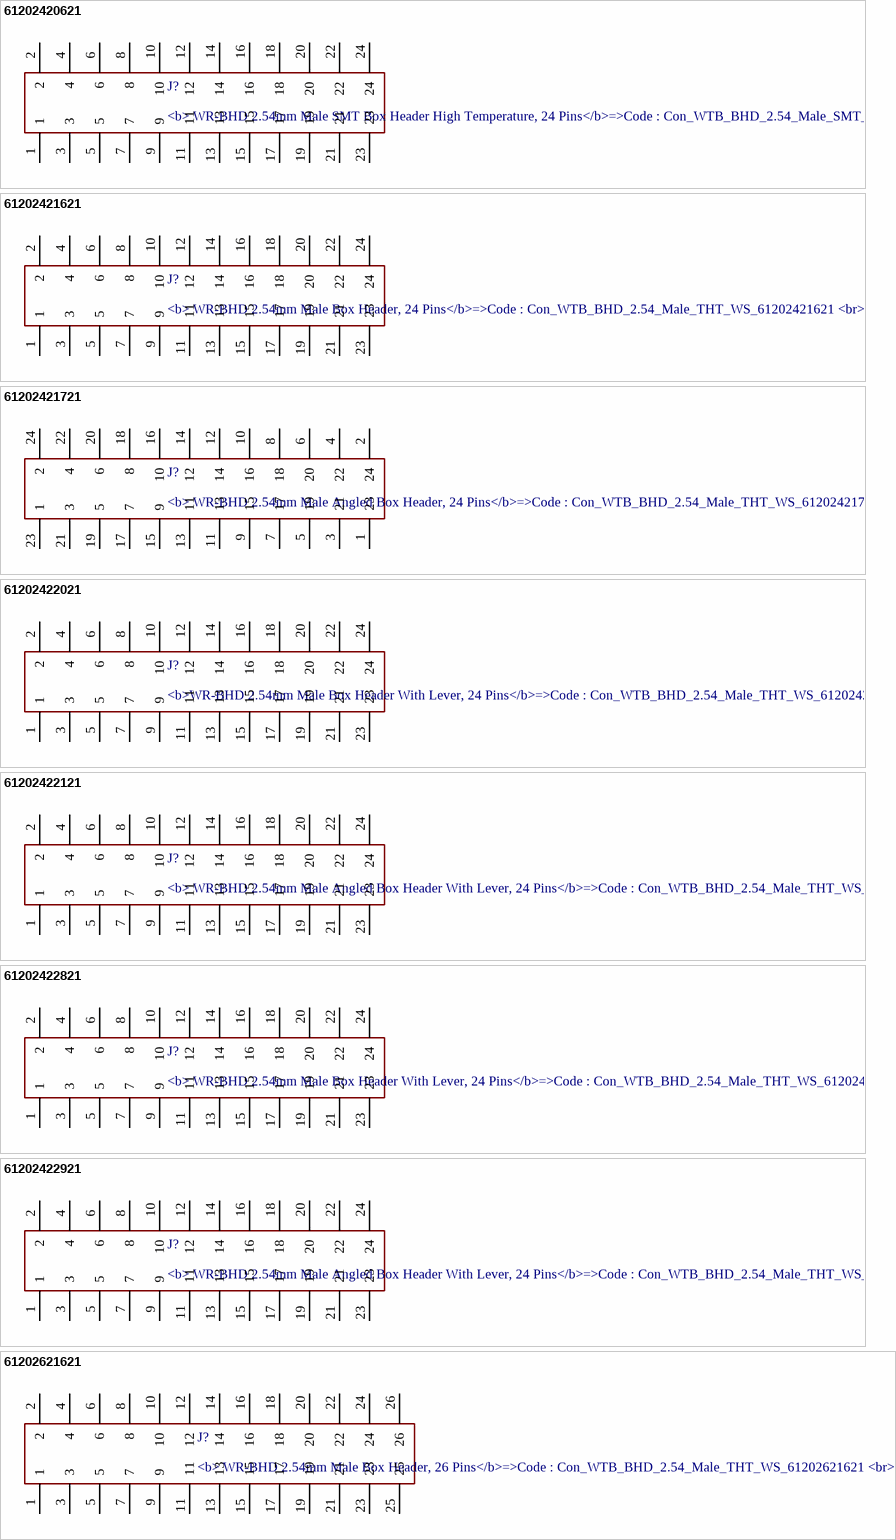
[diagram p4: symbols 61202420621 to 61202621621]

## 61202420621
designator J?, comment <b> WR-BHD 2.54mm Male SMT Box Header High Temperature, 24 Pins</b>=>Code : Con_WTB_BHD_2.54_Male_SMT_61202420621 / <br><a href="http://katalog.we-online.de/media/thumbs2/eican/thb_Con_WTB_BHD_2.54_Male_SMT_6120xx20621_pf2.jpg" title="Enlarge picture"> / <img src="http://katalog.we-online.de/media/thumbs2/eican/thb_Con_WTB_BHD_2.54_Male_SMT_6120xx20621_pf2.jpg"  width="320"></a><p> / Details see: <a href="http://katalog.we-online.de/en/em/612_0xx_206_21">http://katalog.we-online.de/en/em/612_0xx_206_21</a><p> / Created 2014-06-05, Karrer Zheng<br> / 2014 (C) Würth Elektronik
footprint 61202420621
pins: 1, 2, 3, 4, 5, 6, 7, 8, 9, 10, 11, 12, 13, 14, 15, 16, 17, 18, 19, 20, 21, 22, 23, 24

## 61202421621
designator J?, comment <b> WR-BHD 2.54mm Male Box Header, 24 Pins</b>=>Code : Con_WTB_BHD_2.54_Male_THT_WS_61202421621 / <br><a href="http://katalog.we-online.de/media/thumbs2/eican/thb_Con_WTB_BHD_2.54_Male_THT_WS_6120xx21621_pf2.jpg" title="Enlarge picture"> / <img src="http://katalog.we-online.de/media/thumbs2/eican/thb_Con_WTB_BHD_2.54_Male_THT_WS_6120xx21621_pf2.jpg"  width="320"></a><p> / Details see: <a href="http://katalog.we-online.de/en/em/612_0xx_216_21">http://katalog.we-online.de/en/em/612_0xx_216_21</a><p> / Created 2014-06-04, Karrer Zheng<br> / 2014 (C) Würth Elektronik
footprint 61202421621
pins: 1, 2, 3, 4, 5, 6, 7, 8, 9, 10, 11, 12, 13, 14, 15, 16, 17, 18, 19, 20, 21, 22, 23, 24

## 61202421721
designator J?, comment <b> WR-BHD 2.54mm Male Angled Box Header, 24 Pins</b>=>Code : Con_WTB_BHD_2.54_Male_THT_WS_61202421721 / <br><a href="http://katalog.we-online.de/media/thumbs2/eican/thb_Con_WTB_BHD_2.54_Male_THT_WS_6120xx21721_pf2.jpg" title="Enlarge picture"> / <img src="http://katalog.we-online.de/media/thumbs2/eican/thb_Con_WTB_BHD_2.54_Male_THT_WS_6120xx21721_pf2.jpg"  width="320"></a><p> / Details see: <a href="http://katalog.we-online.de/en/em/612_0xx_217_21">http://katalog.we-online.de/en/em/612_0xx_217_21</a><p> / Created 2014-06-05, Karrer Zheng<br> / 2014 (C) Würth Elektronik
footprint 61202421721
pins: 1 23, 2 24, 3 21, 4 22, 5 19, 6 20, 7 17, 8 18, 9 15, 10 16, 11 13, 12 14, 13 11, 14 12, 15 9, 16 10, 17 7, 18 8, 19 5, 20 6, 21 3, 22 4, 23 1, 24 2

## 61202422021
designator J?, comment <b>WR-BHD 2.54mm Male Box Header With Lever, 24 Pins</b>=>Code : Con_WTB_BHD_2.54_Male_THT_WS_61202422021 / <br><a href="http://katalog.we-online.de/media/thumbs2/eican/thb_Con_WTB_BHD_2.54_Male_THT_WS_6120xx22021_pf2.jpg" title="Enlarge picture"> / <img src="http://katalog.we-online.de/media/thumbs2/eican/thb_Con_WTB_BHD_2.54_Male_THT_WS_6120xx22021_pf2.jpg"  width="320"></a><p> / Details see: <a href="http://katalog.we-online.de/en/em/612_0xx_220_21">http://katalog.we-online.de/en/em/612_0xx_220_21</a><p> / Created 2014-06-05, Karrer Zheng<br> / 2014 (C) Würth Elektronik
footprint 61202422021
pins: 1, 2, 3, 4, 5, 6, 7, 8, 9, 10, 11, 12, 13, 14, 15, 16, 17, 18, 19, 20, 21, 22, 23, 24

## 61202422121
designator J?, comment <b> WR-BHD 2.54mm Male Angled Box Header With Lever, 24 Pins</b>=>Code : Con_WTB_BHD_2.54_Male_THT_WS_61202422121 / <br><a href="http://katalog.we-online.de/media/thumbs2/eican/thb_Con_WTB_BHD_2.54_Male_THT_WS_6120xx22121_pf2.jpg" title="Enlarge picture"> / <img src="http://katalog.we-online.de/media/thumbs2/eican/thb_Con_WTB_BHD_2.54_Male_THT_WS_6120xx22121_pf2.jpg"  width="320"></a><p> / Details see: <a href="http://katalog.we-online.de/en/em/612_0xx_221_21">http://katalog.we-online.de/en/em/612_0xx_221_21</a><p> / Created 2014-06-05, Karrer Zheng<br> / 2014 (C) Würth Elektronik
footprint 61202422121
pins: 1, 2, 3, 4, 5, 6, 7, 8, 9, 10, 11, 12, 13, 14, 15, 16, 17, 18, 19, 20, 21, 22, 23, 24

## 61202422821
designator J?, comment <b> WR-BHD 2.54mm Male Box Header With Lever, 24 Pins</b>=>Code : Con_WTB_BHD_2.54_Male_THT_WS_61202422821 / <br><a href="http://katalog.we-online.de/media/thumbs2/eican/thb_Con_WTB_BHD_2.54_Male_THT_WS_6120xx22821_pf2.jpg" title="Enlarge picture"> / <img src="http://katalog.we-online.de/media/thumbs2/eican/thb_Con_WTB_BHD_2.54_Male_THT_WS_6120xx22821_pf2.jpg"  width="320"></a><p> / Details see: <a href="http://katalog.we-online.de/en/em/612_0xx_228_21">http://katalog.we-online.de/en/em/612_0xx_228_21</a><p> / Created 2014-06-05, Karrer Zheng<br> / 2014 (C) Würth Elektronik
footprint 61202422821
pins: 1, 2, 3, 4, 5, 6, 7, 8, 9, 10, 11, 12, 13, 14, 15, 16, 17, 18, 19, 20, 21, 22, 23, 24

## 61202422921
designator J?, comment <b> WR-BHD 2.54mm Male Angled Box Header With Lever, 24 Pins</b>=>Code : Con_WTB_BHD_2.54_Male_THT_WS_61202422921 / <br><a href="http://katalog.we-online.de/media/thumbs2/eican/thb_Con_WTB_BHD_2.54_Male_THT_WS_6120xx22921_pf2.jpg" title="Enlarge picture"> / <img src="http://katalog.we-online.de/media/thumbs2/eican/thb_Con_WTB_BHD_2.54_Male_THT_WS_6120xx22921_pf2.jpg"  width="320"></a><p> / Details see: <a href="http://katalog.we-online.de/en/em/612_0xx_229_21">http://katalog.we-online.de/en/em/612_0xx_229_21</a><p> / Created 2014-06-05, Karrer Zheng<br> / 2014 (C) Würth Elektronik
footprint 61202422921
pins: 1, 2, 3, 4, 5, 6, 7, 8, 9, 10, 11, 12, 13, 14, 15, 16, 17, 18, 19, 20, 21, 22, 23, 24

## 61202621621
designator J?, comment <b> WR-BHD 2.54mm Male Box Header, 26 Pins</b>=>Code : Con_WTB_BHD_2.54_Male_THT_WS_61202621621 / <br><a href="http://katalog.we-online.de/media/thumbs2/eican/thb_Con_WTB_BHD_2.54_Male_THT_WS_6120xx21621_pf2.jpg" title="Enlarge picture"> / <img src="http://katalog.we-online.de/media/thumbs2/eican/thb_Con_WTB_BHD_2.54_Male_THT_WS_6120xx21621_pf2.jpg"  width="320"></a><p> / Details see: <a href="http://katalog.we-online.de/en/em/612_0xx_216_21">http://katalog.we-online.de/en/em/612_0xx_216_21</a><p> / Created 2014-06-04, Karrer Zheng<br> / 2014 (C) Würth Elektronik
footprint 61202621621
pins: 1, 2, 3, 4, 5, 6, 7, 8, 9, 10, 11, 12, 13, 14, 15, 16, 17, 18, 19, 20, 21, 22, 23, 24, 25, 26

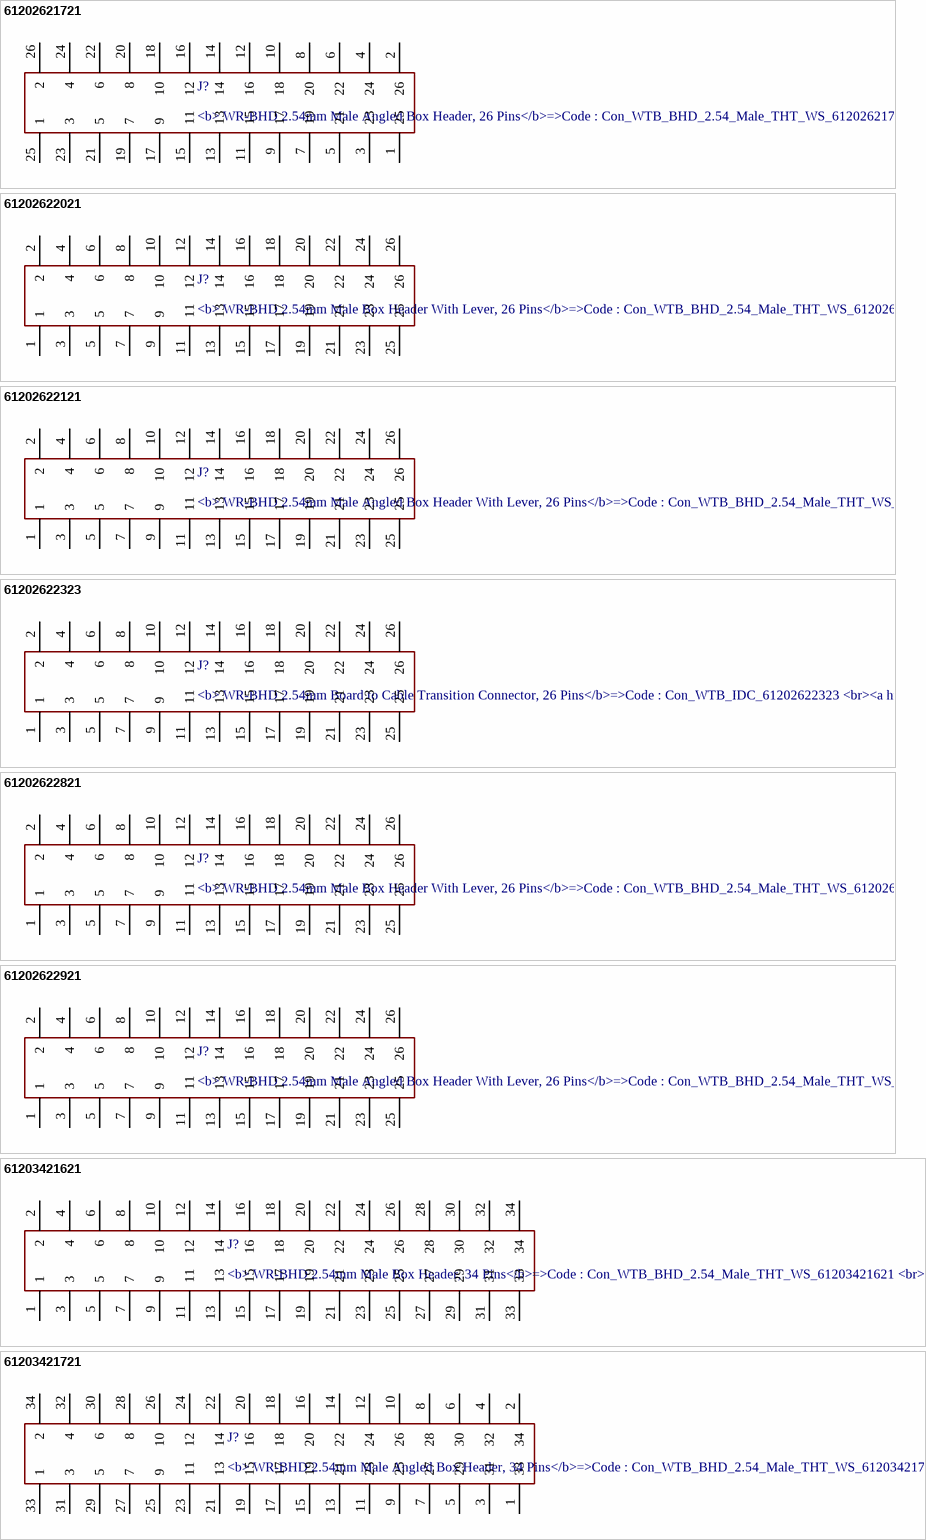
[diagram p5: symbols 61202621721 to 61203421721]

## 61202621721
designator J?, comment <b> WR-BHD 2.54mm Male Angled Box Header, 26 Pins</b>=>Code : Con_WTB_BHD_2.54_Male_THT_WS_61202621721 / <br><a href="http://katalog.we-online.de/media/thumbs2/eican/thb_Con_WTB_BHD_2.54_Male_THT_WS_6120xx21721_pf2.jpg" title="Enlarge picture"> / <img src="http://katalog.we-online.de/media/thumbs2/eican/thb_Con_WTB_BHD_2.54_Male_THT_WS_6120xx21721_pf2.jpg"  width="320"></a><p> / Details see: <a href="http://katalog.we-online.de/en/em/612_0xx_217_21">http://katalog.we-online.de/en/em/612_0xx_217_21</a><p> / Created 2014-06-05, Karrer Zheng<br> / 2014 (C) Würth Elektronik
footprint 61202621721
pins: 1 25, 2 26, 3 23, 4 24, 5 21, 6 22, 7 19, 8 20, 9 17, 10 18, 11 15, 12 16, 13, 14, 15 11, 16 12, 17 9, 18 10, 19 7, 20 8, 21 5, 22 6, 23 3, 24 4, 25 1, 26 2

## 61202622021
designator J?, comment <b> WR-BHD 2.54mm Male Box Header With Lever, 26 Pins</b>=>Code : Con_WTB_BHD_2.54_Male_THT_WS_61202622021 / <br><a href="http://katalog.we-online.de/media/thumbs2/eican/thb_Con_WTB_BHD_2.54_Male_THT_WS_6120xx22021_pf2.jpg" title="Enlarge picture"> / <img src="http://katalog.we-online.de/media/thumbs2/eican/thb_Con_WTB_BHD_2.54_Male_THT_WS_6120xx22021_pf2.jpg"  width="320"></a><p> / Details see: <a href="http://katalog.we-online.de/en/em/612_0xx_220_21">http://katalog.we-online.de/en/em/612_0xx_220_21</a><p> / Created 2014-06-05, Karrer Zheng<br> / 2014 (C) Würth Elektronik
footprint 61202622021
pins: 1, 2, 3, 4, 5, 6, 7, 8, 9, 10, 11, 12, 13, 14, 15, 16, 17, 18, 19, 20, 21, 22, 23, 24, 25, 26

## 61202622121
designator J?, comment <b> WR-BHD 2.54mm Male Angled Box Header With Lever, 26 Pins</b>=>Code : Con_WTB_BHD_2.54_Male_THT_WS_61202622121 / <br><a href="http://katalog.we-online.de/media/thumbs2/eican/thb_Con_WTB_BHD_2.54_Male_THT_WS_6120xx22121_pf2.jpg" title="Enlarge picture"> / <img src="http://katalog.we-online.de/media/thumbs2/eican/thb_Con_WTB_BHD_2.54_Male_THT_WS_6120xx22121_pf2.jpg"  width="320"></a><p> / Details see: <a href="http://katalog.we-online.de/en/em/612_0xx_221_21">http://katalog.we-online.de/en/em/612_0xx_221_21</a><p> / Created 2014-06-05, Karrer Zheng<br> / 2014 (C) Würth Elektronik
footprint 61202622121
pins: 1, 2, 3, 4, 5, 6, 7, 8, 9, 10, 11, 12, 13, 14, 15, 16, 17, 18, 19, 20, 21, 22, 23, 24, 25, 26

## 61202622323
designator J?, comment <b> WR-BHD 2.54mm Board to Cable Transition Connector, 26 Pins</b>=>Code : Con_WTB_IDC_61202622323 / <br><a href="http://katalog.we-online.de/media/thumbs2/eican/thb_Con_WTB_IDC_6120xx22323_pf2.jpg" title="Enlarge picture"> / <img src="http://katalog.we-online.de/media/thumbs2/eican/thb_Con_WTB_IDC_6120xx22323_pf2.jpg"  width="320"></a><p> / Details see: <a href="http://katalog.we-online.de/en/em/612_0xx_223_23">http://katalog.we-online.de/en/em/612_0xx_223_23</a><p> / Created 2014-06-05, Karrer Zheng<br> / 2014 (C) Würth Elektronik
footprint 61202622323
pins: 1, 2, 3, 4, 5, 6, 7, 8, 9, 10, 11, 12, 13, 14, 15, 16, 17, 18, 19, 20, 21, 22, 23, 24, 25, 26

## 61202622821
designator J?, comment <b> WR-BHD 2.54mm Male Box Header With Lever, 26 Pins</b>=>Code : Con_WTB_BHD_2.54_Male_THT_WS_61202622821 / <br><a href="http://katalog.we-online.de/media/thumbs2/eican/thb_Con_WTB_BHD_2.54_Male_THT_WS_6120xx22821_pf2.jpg" title="Enlarge picture"> / <img src="http://katalog.we-online.de/media/thumbs2/eican/thb_Con_WTB_BHD_2.54_Male_THT_WS_6120xx22821_pf2.jpg"  width="320"></a><p> / Details see: <a href="http://katalog.we-online.de/en/em/612_0xx_228_21">http://katalog.we-online.de/en/em/612_0xx_228_21</a><p> / Created 2014-06-05, Karrer Zheng<br> / 2014 (C) Würth Elektronik
footprint 61202622821
pins: 1, 2, 3, 4, 5, 6, 7, 8, 9, 10, 11, 12, 13, 14, 15, 16, 17, 18, 19, 20, 21, 22, 23, 24, 25, 26

## 61202622921
designator J?, comment <b> WR-BHD 2.54mm Male Angled Box Header With Lever, 26 Pins</b>=>Code : Con_WTB_BHD_2.54_Male_THT_WS_61202622921 / <br><a href="http://katalog.we-online.de/media/thumbs2/eican/thb_Con_WTB_BHD_2.54_Male_THT_WS_6120xx22921_pf2.jpg" title="Enlarge picture"> / <img src="http://katalog.we-online.de/media/thumbs2/eican/thb_Con_WTB_BHD_2.54_Male_THT_WS_6120xx22921_pf2.jpg"  width="320"></a><p> / Details see: <a href="http://katalog.we-online.de/en/em/612_0xx_229_21">http://katalog.we-online.de/en/em/612_0xx_229_21</a><p> / Created 2014-06-05, Karrer Zheng<br> / 2014 (C) Würth Elektronik
footprint 61202622921
pins: 1, 2, 3, 4, 5, 6, 7, 8, 9, 10, 11, 12, 13, 14, 15, 16, 17, 18, 19, 20, 21, 22, 23, 24, 25, 26

## 61203421621
designator J?, comment <b> WR-BHD 2.54mm Male Box Header, 34 Pins</b>=>Code : Con_WTB_BHD_2.54_Male_THT_WS_61203421621 / <br><a href="http://katalog.we-online.de/media/thumbs2/eican/thb_Con_WTB_BHD_2.54_Male_THT_WS_6120xx21621_pf2.jpg" title="Enlarge picture"> / <img src="http://katalog.we-online.de/media/thumbs2/eican/thb_Con_WTB_BHD_2.54_Male_THT_WS_6120xx21621_pf2.jpg"  width="320"></a><p> / Details see: <a href="http://katalog.we-online.de/en/em/612_0xx_216_21">http://katalog.we-online.de/en/em/612_0xx_216_21</a><p> / Created 2014-06-04, Karrer Zheng<br> / 2014 (C) Würth Elektronik
footprint 61203421621
pins: 1, 2, 3, 4, 5, 6, 7, 8, 9, 10, 11, 12, 13, 14, 15, 16, 17, 18, 19, 20, 21, 22, 23, 24, 25, 26, 27, 28, 29, 30, 31, 32, 33, 34

## 61203421721
designator J?, comment <b> WR-BHD 2.54mm Male Angled Box Header, 34 Pins</b>=>Code : Con_WTB_BHD_2.54_Male_THT_WS_61203421721 / <br><a href="http://katalog.we-online.de/media/thumbs2/eican/thb_Con_WTB_BHD_2.54_Male_THT_WS_6120xx21721_pf2.jpg" title="Enlarge picture"> / <img src="http://katalog.we-online.de/media/thumbs2/eican/thb_Con_WTB_BHD_2.54_Male_THT_WS_6120xx21721_pf2.jpg"  width="320"></a><p> / Details see: <a href="http://katalog.we-online.de/en/em/612_0xx_217_21">http://katalog.we-online.de/en/em/612_0xx_217_21</a><p> / Created 2014-06-05, Karrer Zheng<br> / 2014 (C) Würth Elektronik
footprint 61203421721
pins: 1 33, 2 34, 3 31, 4 32, 5 29, 6 30, 7 27, 8 28, 9 25, 10 26, 11 23, 12 24, 13 21, 14 22, 15 19, 16 20, 17, 18, 19 15, 20 16, 21 13, 22 14, 23 11, 24 12, 25 9, 26 10, 27 7, 28 8, 29 5, 30 6, 31 3, 32 4, 33 1, 34 2

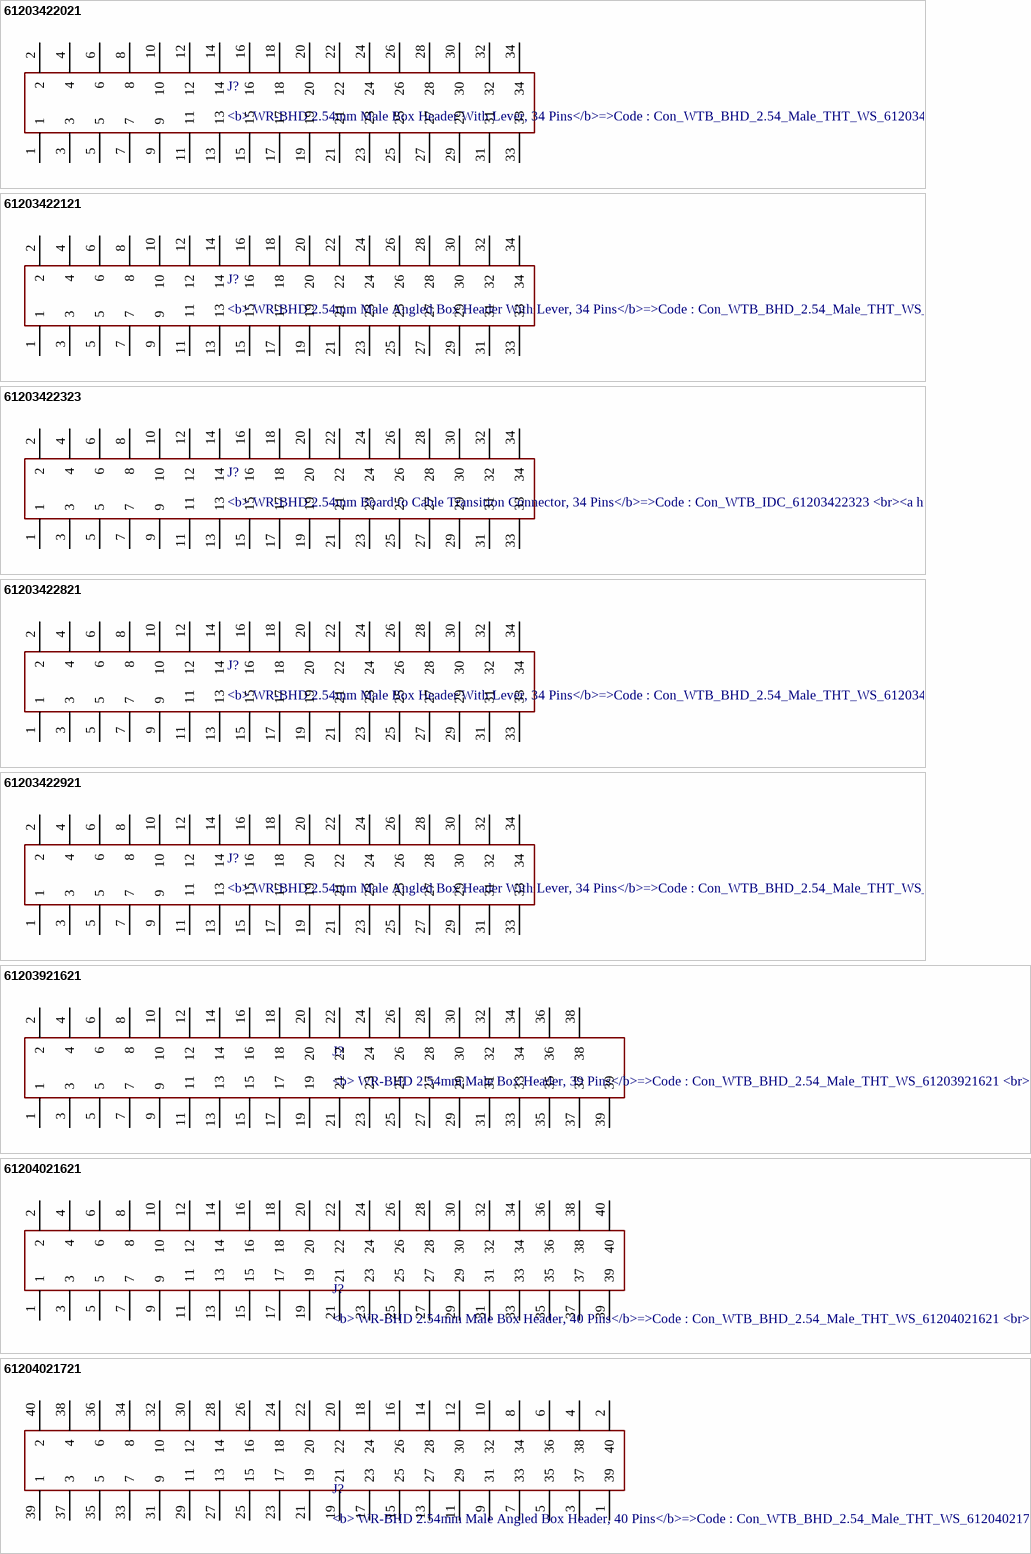
[diagram p6: symbols 61203422021 to 61204021721]

## 61203422021
designator J?, comment <b> WR-BHD 2.54mm Male Box Header With Lever, 34 Pins</b>=>Code : Con_WTB_BHD_2.54_Male_THT_WS_61203422021 / <br><a href="http://katalog.we-online.de/media/thumbs2/eican/thb_Con_WTB_BHD_2.54_Male_THT_WS_6120xx22021_pf2.jpg" title="Enlarge picture"> / <img src="http://katalog.we-online.de/media/thumbs2/eican/thb_Con_WTB_BHD_2.54_Male_THT_WS_6120xx22021_pf2.jpg"  width="320"></a><p> / Details see: <a href="http://katalog.we-online.de/en/em/612_0xx_220_21">http://katalog.we-online.de/en/em/612_0xx_220_21</a><p> / Created 2014-06-05, Karrer Zheng<br> / 2014 (C) Würth Elektronik
footprint 61203422021
pins: 1, 2, 3, 4, 5, 6, 7, 8, 9, 10, 11, 12, 13, 14, 15, 16, 17, 18, 19, 20, 21, 22, 23, 24, 25, 26, 27, 28, 29, 30, 31, 32, 33, 34

## 61203422121
designator J?, comment <b> WR-BHD 2.54mm Male Angled Box Header With Lever, 34 Pins</b>=>Code : Con_WTB_BHD_2.54_Male_THT_WS_61203422121 / <br><a href="http://katalog.we-online.de/media/thumbs2/eican/thb_Con_WTB_BHD_2.54_Male_THT_WS_6120xx22121_pf2.jpg" title="Enlarge picture"> / <img src="http://katalog.we-online.de/media/thumbs2/eican/thb_Con_WTB_BHD_2.54_Male_THT_WS_6120xx22121_pf2.jpg"  width="320"></a><p> / Details see: <a href="http://katalog.we-online.de/en/em/612_0xx_221_21">http://katalog.we-online.de/en/em/612_0xx_221_21</a><p> / Created 2014-06-05, Karrer Zheng<br> / 2014 (C) Würth Elektronik
footprint 61203422121
pins: 1, 2, 3, 4, 5, 6, 7, 8, 9, 10, 11, 12, 13, 14, 15, 16, 17, 18, 19, 20, 21, 22, 23, 24, 25, 26, 27, 28, 29, 30, 31, 32, 33, 34

## 61203422323
designator J?, comment <b> WR-BHD 2.54mm Board to Cable Transition Connector, 34 Pins</b>=>Code : Con_WTB_IDC_61203422323 / <br><a href="http://katalog.we-online.de/media/thumbs2/eican/thb_Con_WTB_IDC_6120xx22323_pf2.jpg" title="Enlarge picture"> / <img src="http://katalog.we-online.de/media/thumbs2/eican/thb_Con_WTB_IDC_6120xx22323_pf2.jpg"  width="320"></a><p> / Details see: <a href="http://katalog.we-online.de/en/em/612_0xx_223_23">http://katalog.we-online.de/en/em/612_0xx_223_23</a><p> / Created 2014-06-05, Karrer Zheng<br> / 2014 (C) Würth Elektronik
footprint 61203422323
pins: 1, 2, 3, 4, 5, 6, 7, 8, 9, 10, 11, 12, 13, 14, 15, 16, 17, 18, 19, 20, 21, 22, 23, 24, 25, 26, 27, 28, 29, 30, 31, 32, 33, 34

## 61203422821
designator J?, comment <b> WR-BHD 2.54mm Male Box Header With Lever, 34 Pins</b>=>Code : Con_WTB_BHD_2.54_Male_THT_WS_61203422821 / <br><a href="http://katalog.we-online.de/media/thumbs2/eican/thb_Con_WTB_BHD_2.54_Male_THT_WS_6120xx22821_pf2.jpg" title="Enlarge picture"> / <img src="http://katalog.we-online.de/media/thumbs2/eican/thb_Con_WTB_BHD_2.54_Male_THT_WS_6120xx22821_pf2.jpg"  width="320"></a><p> / Details see: <a href="http://katalog.we-online.de/en/em/612_0xx_228_21">http://katalog.we-online.de/en/em/612_0xx_228_21</a><p> / Created 2014-06-05, Karrer Zheng<br> / 2014 (C) Würth Elektronik
footprint 61203422821
pins: 1, 2, 3, 4, 5, 6, 7, 8, 9, 10, 11, 12, 13, 14, 15, 16, 17, 18, 19, 20, 21, 22, 23, 24, 25, 26, 27, 28, 29, 30, 31, 32, 33, 34

## 61203422921
designator J?, comment <b> WR-BHD 2.54mm Male Angled Box Header With Lever, 34 Pins</b>=>Code : Con_WTB_BHD_2.54_Male_THT_WS_61203422921 / <br><a href="http://katalog.we-online.de/media/thumbs2/eican/thb_Con_WTB_BHD_2.54_Male_THT_WS_6120xx22921_pf2.jpg" title="Enlarge picture"> / <img src="http://katalog.we-online.de/media/thumbs2/eican/thb_Con_WTB_BHD_2.54_Male_THT_WS_6120xx22921_pf2.jpg"  width="320"></a><p> / Details see: <a href="http://katalog.we-online.de/en/em/612_0xx_229_21">http://katalog.we-online.de/en/em/612_0xx_229_21</a><p> / Created 2014-06-05, Karrer Zheng<br> / 2014 (C) Würth Elektronik
footprint 61203422921
pins: 1, 2, 3, 4, 5, 6, 7, 8, 9, 10, 11, 12, 13, 14, 15, 16, 17, 18, 19, 20, 21, 22, 23, 24, 25, 26, 27, 28, 29, 30, 31, 32, 33, 34

## 61203921621
designator J?, comment <b> WR-BHD 2.54mm Male Box Header, 39 Pins</b>=>Code : Con_WTB_BHD_2.54_Male_THT_WS_61203921621 / <br><a href="http://katalog.we-online.de/media/thumbs2/eican/thb_Con_WTB_BHD_2.54_Male_THT_WS_6120xx21621_pf2.jpg" title="Enlarge picture"> / <img src="http://katalog.we-online.de/media/thumbs2/eican/thb_Con_WTB_BHD_2.54_Male_THT_WS_6120xx21621_pf2.jpg"  width="320"></a><p> / Details see: <a href="http://katalog.we-online.de/en/em/612_0xx_216_21">http://katalog.we-online.de/en/em/612_0xx_216_21</a><p> / Created 2014-06-04, Karrer Zheng<br> / 2014 (C) Würth Elektronik
footprint 61203921621
pins: 1, 2, 3, 4, 5, 6, 7, 8, 9, 10, 11, 12, 13, 14, 15, 16, 17, 18, 19, 20, 21, 22, 23, 24, 25, 26, 27, 28, 29, 30, 31, 32, 33, 34, 35, 36, 37, 38, 39

## 61204021621
designator J?, comment <b> WR-BHD 2.54mm Male Box Header, 40 Pins</b>=>Code : Con_WTB_BHD_2.54_Male_THT_WS_61204021621 / <br><a href="http://katalog.we-online.de/media/thumbs2/eican/thb_Con_WTB_BHD_2.54_Male_THT_WS_6120xx21621_pf2.jpg" title="Enlarge picture"> / <img src="http://katalog.we-online.de/media/thumbs2/eican/thb_Con_WTB_BHD_2.54_Male_THT_WS_6120xx21621_pf2.jpg"  width="320"></a><p> / Details see: <a href="http://katalog.we-online.de/en/em/612_0xx_216_21">http://katalog.we-online.de/en/em/612_0xx_216_21</a><p> / Created 2014-06-04, Karrer Zheng<br> / 2014 (C) Würth Elektronik
footprint 61204021621
pins: 1, 2, 3, 4, 5, 6, 7, 8, 9, 10, 11, 12, 13, 14, 15, 16, 17, 18, 19, 20, 21, 22, 23, 24, 25, 26, 27, 28, 29, 30, 31, 32, 33, 34, 35, 36, 37, 38, 39, 40

## 61204021721
designator J?, comment <b> WR-BHD 2.54mm Male Angled Box Header, 40 Pins</b>=>Code : Con_WTB_BHD_2.54_Male_THT_WS_61204021721 / <br><a href="http://katalog.we-online.de/media/thumbs2/eican/thb_Con_WTB_BHD_2.54_Male_THT_WS_6120xx21721_pf2.jpg" title="Enlarge picture"> / <img src="http://katalog.we-online.de/media/thumbs2/eican/thb_Con_WTB_BHD_2.54_Male_THT_WS_6120xx21721_pf2.jpg"  width="320"></a><p> / Details see: <a href="http://katalog.we-online.de/en/em/612_0xx_217_21">http://katalog.we-online.de/en/em/612_0xx_217_21</a><p> / Created 2014-06-05, Karrer Zheng<br> / 2014 (C) Würth Elektronik
footprint 61204021721
pins: 1 39, 2 40, 3 37, 4 38, 5 35, 6 36, 7 33, 8 34, 9 31, 10 32, 11 29, 12 30, 13 27, 14 28, 15 25, 16 26, 17 23, 18 24, 19 21, 20 22, 21 19, 22 20, 23 17, 24 18, 25 15, 26 16, 27 13, 28 14, 29 11, 30 12, 31 9, 32 10, 33 7, 34 8, 35 5, 36 6, 37 3, 38 4, 39 1, 40 2

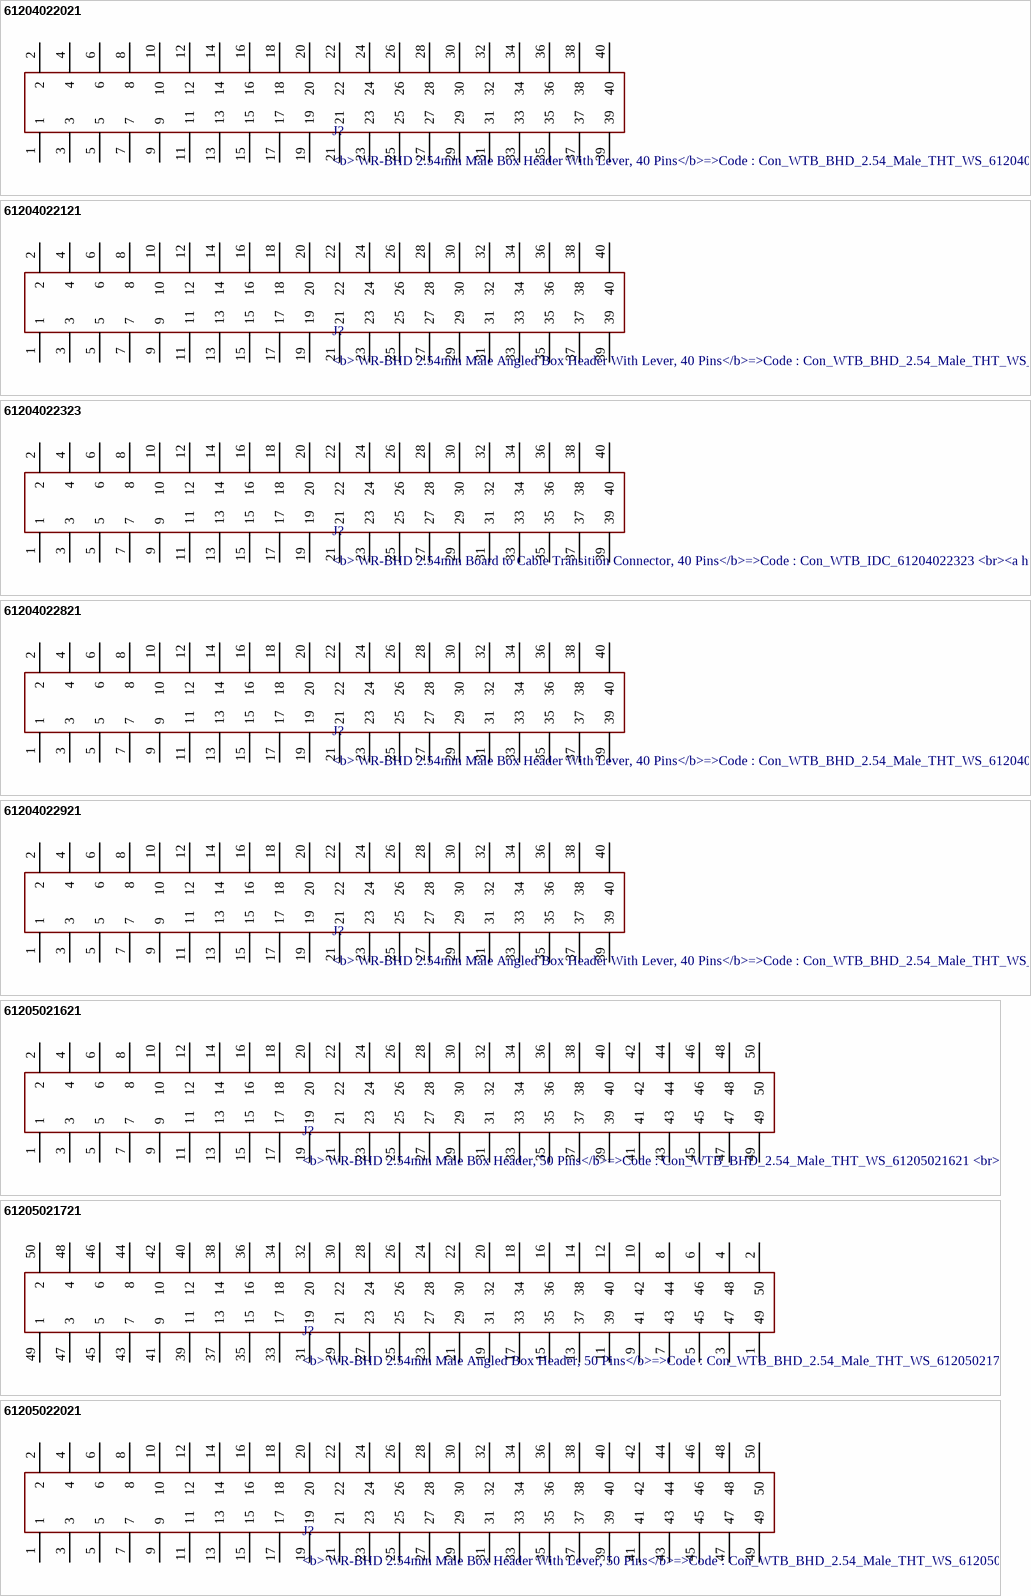
[diagram p7: symbols 61204022021 to 61205022021]

## 61204022021
designator J?, comment <b> WR-BHD 2.54mm Male Box Header With Lever, 40 Pins</b>=>Code : Con_WTB_BHD_2.54_Male_THT_WS_61204022021 / <br><a href="http://katalog.we-online.de/media/thumbs2/eican/thb_Con_WTB_BHD_2.54_Male_THT_WS_6120xx22021_pf2.jpg" title="Enlarge picture"> / <img src="http://katalog.we-online.de/media/thumbs2/eican/thb_Con_WTB_BHD_2.54_Male_THT_WS_6120xx22021_pf2.jpg"  width="320"></a><p> / Details see: <a href="http://katalog.we-online.de/en/em/612_0xx_220_21">http://katalog.we-online.de/en/em/612_0xx_220_21</a><p> / Created 2014-06-05, Karrer Zheng<br> / 2014 (C) Würth Elektronik
footprint 61204022021
pins: 1, 2, 3, 4, 5, 6, 7, 8, 9, 10, 11, 12, 13, 14, 15, 16, 17, 18, 19, 20, 21, 22, 23, 24, 25, 26, 27, 28, 29, 30, 31, 32, 33, 34, 35, 36, 37, 38, 39, 40